# Altium schematic symbol library A_Semi.SchLib: 136 symbols (part 1 of 2)
Pins are listed as number, name and electrical type; pins without a type are passive.

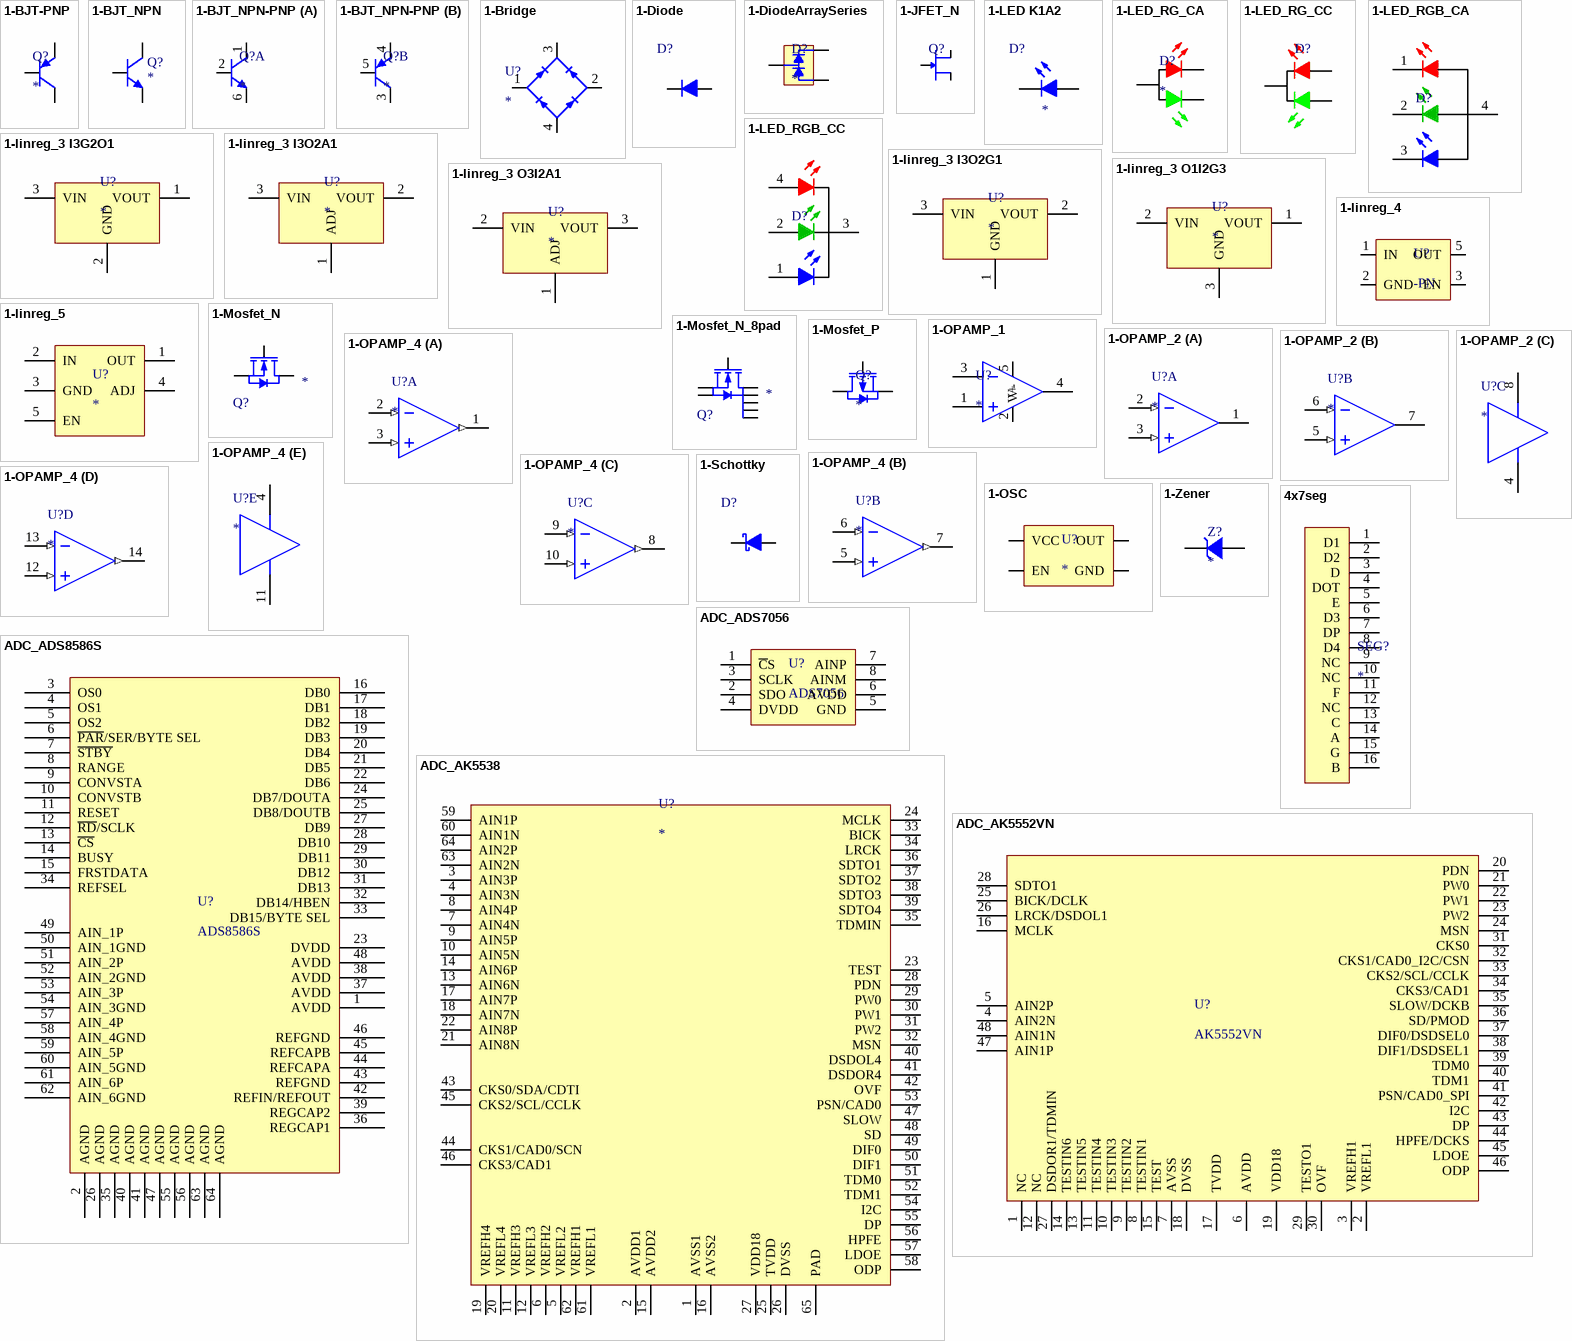
[diagram p0: symbols 1-BJT-PNP to ADC_AK5552VN]

## 1-BJT-PNP
designator Q?
footprint SOT23-3
footprint SOT95P245X110-3N (SOT23, 3-Leads, Body 2.90x2.45mm, Pitch 0.95mm, IPC Medium Density)
footprint TO-220AB (TO, Thru-Hole, Vertical, Heatsink Mounted; 3 In-Line Leads; Pitch 2.54 mm); pin to pad 2>3 3>2
pins: 1 B, 2 E, 3 C

## 1-BJT_NPN
designator Q?
NPN General Purpose
footprint TO-92A (TO, Flat Index; 3 In-Line, Axial Leads; Body Dia. 4.5mm; Leads 0.51 x 0.48 mm (max))
footprint SOT95P245X110-3N (SOT23, 3-Leads, Body 2.90x2.45mm, Pitch 0.95mm, IPC Medium Density)
footprint SOT23-3
pins: 1 B, 2 E, 3 C

## 1-BJT_NPN-PNP
designator Q?
footprint SOT23-6 (SOT23, 6-Leads, Body 2.90x2.80mm, Pitch 0.95mm, IPC Medium Density)
part A pins: 1 C, 2 B, 6 E
part B pins: 3 C, 4 E, 5 B

## 1-Bridge
designator U?
footprint SMC_Diode_Solutions_0_MFG
pins: 1 -, 2 +, 3 1 ~, 4 2 ~

## 1-Diode
designator D?
Generic Diode; Label: *
footprint SMini2-F5-B (Diode) (Panasonic Schottky Diode)
footprint SOD80 (MiniMELF)
footprint DO204
footprint ONSC-POWERMITE-2-457-04_D_V (POWERMITE, 2-Leads, Body 1.965x1.9mm)
footprint FP-SOD123-IPC_A
footprint FP-SOD123-IPC_B
footprint FP-SOD123-IPC_C
footprint FP-SOD123-MFG
footprint SMA_L-K1A2 (Molded Diode, 2-Leads, Body 4.30x2.60mm, IPC High Density)
footprint SMC_L-K1A2 (Molded Diode, 2-Leads, Body 6.85x5.90mm, IPC High Density)
footprint SMA-K1A2 (Molded Diode, 2-Leads, Body 4.30x2.60mm, IPC Medium Density)
footprint SMB-K1A2 (Molded Diode, 2-Leads, Body 4.35x3.62mm, IPC Medium Density)
footprint SMB_L-K1A2 (Molded Diode, 2-Leads, Body 4.35x3.62mm, IPC High Density)
footprint SMC-K1A2 (Molded Diode, 2-Leads, Body 6.85x5.90mm, IPC Medium Density)
footprint FP-SOD-323-MFG
pins: 1 K, 2 A

## 1-DiodeArraySeries
designator D?
footprint SOT23-3
pins: 1 A, 2 C, 3 CA

## 1-JFET_N
designator Q?
footprint SOT95P245X110-3N (SOT23, 3-Leads, Body 2.90x2.45mm, Pitch 0.95mm, IPC Medium Density)
footprint SOT23-3
pins: 1 D, 2 S, 3 G

## 1-LED K1A2
designator D?
Label: *
footprint LTL1CHTBK5
footprint LED-0603-K1A2 (SMD LED, 2-Leads, Body 1.6x0.8mm)
footprint LED-0603-K1A2 - ALT (SMD LED, 2-Leads, Body 1.6x0.8mm)
footprint LED-0805-K1A2 (SMD LED, 2-Leads, Body 2.0x1.25mm)
footprint LED-0805-K1A2 - ALT (SMD LED, 2-Leads, Body 2.0x1.25mm)
footprint LED-T1-3/4-K1A2 (Through Hole LED, 2-Leads, Diameter 5mm, Lead Spacing 2.54mm)
footprint LED-T1-K1A2 (Through Hole LED, 2-Leads, Diameter 3mm, Lead Spacing 2.54mm)
pins: 1 K, 2 A

## 1-LED_RG_CA
designator D?
footprint LTST-S326KGJRKT
pins: 1 K, 2 K, 3 A

## 1-LED_RG_CC
designator D?
R,G LED; Label: *
footprint LTL1BEKVJNN (Common Cathode R/G LED)
pins: 1 A, 2 K, 3 A

## 1-LED_RGB_CA
designator D?  (value not drawn)
footprint LED LTST-C19HE1WT
pins: 1 K, 2 K, 3 K, 4 A

## 1-LED_RGB_CC
designator D?  (value not drawn)
footprint LED-RGB-TH
pins: 1 A, 2 A, 3 C, 4 A

## 1-linreg_3 I3G2O1
designator U?
footprint SOT23-3
footprint SOT23_SOT89_TO92_SMD; pin to pad 1>3 3>1
footprint TO-220AB (TO, Thru-Hole, Vertical, Heatsink Mounted; 3 In-Line Leads; Pitch 2.54 mm); pin to pad 1>3 3>1
footprint TO220-H; pin to pad 1>3 3>1
pins: 1 VOUT (power), 2 GND (power), 3 VIN (power)

## 1-linreg_3 I3O2A1
designator U?
footprint SOT23-3
footprint TO-220AB (TO, Thru-Hole, Vertical, Heatsink Mounted; 3 In-Line Leads; Pitch 2.54 mm)
footprint TO220-H
pins: 1 ADJ (power), 2 VOUT (power), 3 VIN (power)

## 1-linreg_3 I3O2G1
designator U?
footprint SOT23-3
footprint TO252_3_DPAK
pins: 1 GND (power), 2 VOUT (power), 3 VIN (power)

## 1-linreg_3 O1I2G3
designator U?
footprint SOT23-3
pins: 1 VOUT (power), 2 VIN (power), 3 GND (power)

## 1-linreg_3 O3I2A1
designator U?
footprint SOT23-3
footprint TO-220AB (TO, Thru-Hole, Vertical, Heatsink Mounted; 3 In-Line Leads; Pitch 2.54 mm)
footprint TO220-H
pins: 1 ADJ (power), 2 VIN (power), 3 VOUT (power)

## 1-linreg_4
designator U?, comment -PN
PN: *
footprint SOT23-5 (SOT23, 5-Leads, Body 2.90x2.80mm, Pitch 0.95mm, IPC Medium Density)
footprint FP-SON5-P-0_50-MFG; pin to pad 1>3 3>1 5>4
pins: 1 IN, 2 GND, 3 EN, 5 OUT

## 1-linreg_5
designator U?
footprint SOIC127P600X175-8N (SOIC, 8-Leads, Body 4.95x3.90mm, Pitch 1.27mm, IPC Medium Density); pin to pad 2>8 3>2+3+6+7
pins: 1 OUT, 2 IN, 3 GND, 4 ADJ, 5 EN

## 1-Mosfet_N
designator Q?
N-Channel Mosfet; Value: *
footprint SOT95P245X110-3N (SOT23, 3-Leads, Body 2.90x2.45mm, Pitch 0.95mm, IPC Medium Density)
footprint SOT23-3
footprint TO-220AB (TO, Thru-Hole, Vertical, Heatsink Mounted; 3 In-Line Leads; Pitch 2.54 mm); pin to pad 2>3 3>2
footprint TRANS_DMN2020UFCL-7
footprint SMDMosfetGeneral; pin to pad 2>3 3>2
pins: 1 G, 2 S, 3 D

## 1-Mosfet_N_8pad
designator Q?
N-Channel Mosfet; Value: *
footprint DFN2020
pins: 1 D, 2 D, 3 D, 4 D, 5 D, 6 G, 7 D, 8 S

## 1-Mosfet_P
designator Q?
P-Channel Enhancement Mosfet
footprint TO252_3_DPAK
footprint SOT23-3; pin to pad 2>3 3>2
footprint SOT23-6 (SOT23, 6-Leads, Body 2.90x2.80mm, Pitch 0.95mm, IPC Medium Density); pin to pad 1>3 2>1+2+5+6 3>4
footprint TO-220AB (TO, Thru-Hole, Vertical, Heatsink Mounted; 3 In-Line Leads; Pitch 2.54 mm)
pins: 1 G, 2 D, 3 S

## 1-OPAMP_1
designator U?
footprint SOT23-5 (SOT23, 5-Leads, Body 2.90x2.80mm, Pitch 0.95mm, IPC Medium Density)
pins: 1 IN+, 2 V-, 3 IN-, 4 OUT, 5 V+

## 1-OPAMP_2
designator U?
Value: *
footprint SOIC127P600X175-8N (SOIC, 8-Leads, Body 4.95x3.90mm, Pitch 1.27mm, IPC Medium Density)
footprint SOP65P640X120-8N (TSOP, 8-Leads, Body 3.00x4.40mm, Pitch 0.65mm, IPC Medium Density)
footprint MSOP8-TSSOP8-VSSOP8-SSOP8
part A pins: 1 OUT1, 2 IN1- (in), 3 IN1+ (in)
part B pins: 5 IN2+ (in), 6 IN2- (in), 7 OUT2
part C pins: 4 VCC-, 8 VCC+

## 1-OPAMP_4
designator U?
Value: *
footprint SOIC127P600X175-14N (SOIC, 14-Leads, Body 8.63x3.90mm, Pitch 1.27mm, IPC Medium Density)
footprint SOP65P640X120-14N (TSOP, 14-Leads, Body 5.00x4.40mm, Pitch 0.65mm, IPC Medium Density)
part A pins: 1 OUT1 (out), 2 IN1- (in), 3 IN1+ (in)
part B pins: 5 IN2+ (in), 6 IN2- (in), 7 OUT2 (out)
part C pins: 8 OUT3 (out), 9 IN3- (in), 10 IN3+ (in)
part D pins: 12 IN4+ (in), 13 IN4- (in), 14 OUT4 (out)
part E pins: 4 VCC+ (power), 11 VCC- (power)

## 1-OSC
designator U?
footprint OSC
footprint 2520osc
pins: 1 EN, 2 GND, 3 OUT, 4 VCC

## 1-Schottky
designator D?
Generic Diode; Label: *
footprint SMini2-F5-B (Diode) (Panasonic Schottky Diode)
footprint SMA_L-K1A2 (Molded Diode, 2-Leads, Body 4.30x2.60mm, IPC High Density)
pins: 1 K, 2 A

## 1-Zener
designator Z?
footprint FP-SOD-323-IPC_A
footprint FP-SOD-323-IPC_B
footprint FP-SOD-323-IPC_C
footprint SOT23-3
footprint FP-SOD123-IPC_C
footprint FP-SOD123-IPC_B
footprint FP-SOD123-IPC_A
footprint FP-SOD123-MFG
footprint SMC-K1A2 (Molded Diode, 2-Leads, Body 6.85x5.90mm, IPC Medium Density)
footprint FP-SOD-323-MFG
pins: 1 C, 2 A

## 4x7seg
designator SEG?
footprint LTC-4627JR
pins: 1 D1, 2 D2, 3 D, 4 DOT, 5 E, 6 D3, 7 DP, 8 D4, 9 NC, 10 NC, 11 F, 12 NC, 13 C, 14 A, 15 G, 16 B

## ADC_ADS7056
designator U?, comment ADS7056
pins: 1 ~{C}S, 2 SDO, 3 SCLK, 4 DVDD, 5 GND, 6 AVDD, 7 AINP, 8 AINM

## ADC_ADS8586S
designator U?, comment ADS8586S
footprint 64QFP
pins: 1 AVDD, 2 AGND, 3 OS0, 4 OS1, 5 OS2, 6 ~{PAR}/SER/BYTE SEL, 7 ~{STBY}, 8 RANGE, 9 CONVSTA, 10 CONVSTB, 11 RESET, 12 ~{RD}/SCLK, 13 ~{CS}, 14 BUSY, 15 FRSTDATA, 16 DB0, 17 DB1, 18 DB2, 19 DB3, 20 DB4, 21 DB5, 22 DB6, 23 DVDD, 24 DB7/DOUTA, 25 DB8/DOUTB, 26 AGND, 27 DB9, 28 DB10, 29 DB11, 30 DB12, 31 DB13, 32 DB14/HBEN, 33 DB15/BYTE SEL, 34 REFSEL, 35 AGND, 36 REGCAP1, 37 AVDD, 38 AVDD, 39 REGCAP2, 40 AGND, 41 AGND, 42 REFIN/REFOUT, 43 REFGND, 44 REFCAPA, 45 REFCAPB, 46 REFGND, 47 AGND, 48 AVDD, 49 AIN_1P, 50 AIN_1GND, 51 AIN_2P, 52 AIN_2GND, 53 AIN_3P, 54 AIN_3GND, 55 AGND, 56 AGND, 57 AIN_4P, 58 AIN_4GND, 59 AIN_5P, 60 AIN_5GND, 61 AIN_6P, 62 AIN_6GND, 63 AGND, 64 AGND

## ADC_AK5538
designator U?
footprint QFN50P900X900X90_HS-65N (QFN, 64-Leads, Body 9.00x9.00mm, Pitch 0.50mm, Thermal Pad 5.40x5.40mm, IPC Medium Density)
pins: 1 AVSS1, 2 AVDD1, 3 AIN3P, 4 AIN3N, 5 VREFL2, 6 VREFH2, 7 AIN4N, 8 AIN4P, 9 AIN5P, 10 AIN5N, 11 VREFH3, 12 VREFL3, 13 AIN6N, 14 AIN6P, 15 AVDD2, 16 AVSS2, 17 AIN7P, 18 AIN7N, 19 VREFH4, 20 VREFL4, 21 AIN8N, 22 AIN8P, 23 TEST, 24 MCLK, 25 TVDD, 26 DVSS, 27 VDD18, 28 PDN, 29 PW0, 30 PW1, 31 PW2, 32 MSN, 33 BICK, 34 LRCK, 35 TDMIN, 36 SDTO1, 37 SDTO2, 38 SDTO3, 39 SDTO4, 40 DSDOL4, 41 DSDOR4, 42 OVF, 43 CKS0/SDA/CDTI, 44 CKS1/CAD0/SCN, 45 CKS2/SCL/CCLK, 46 CKS3/CAD1, 47 SLOW, 48 SD, 49 DIF0, 50 DIF1, 51 TDM0, 52 TDM1, 53 PSN/CAD0, 54 I2C, 55 DP, 56 HPFE, 57 LDOE, 58 ODP, 59 AIN1P, 60 AIN1N, 61 VREFL1, 62 VREFH1, 63 AIN2N, 64 AIN2P, 65 PAD

## ADC_AK5552VN
designator U?, comment AK5552VN
footprint QFN50P700X700X85_HS-49M (QFN, 48-Leads, Body 7.00x7.00mm, Pitch 0.50mm, Thermal Pad 5.10x5.10mm, IPC Low Density)
pins: 1 NC, 2 VREFL1, 3 VREFH1, 4 AIN2N, 5 AIN2P, 6 AVDD, 7 AVSS, 8 TESTIN1, 9 TESTIN2, 10 TESTIN3, 11 TESTIN4, 12 NC, 13 TESTIN5, 14 TESTIN6, 15 TEST, 16 MCLK, 17 TVDD, 18 DVSS, 19 VDD18, 20 PDN, 21 PW0, 22 PW1, 23 PW2, 24 MSN, 25 BICK/DCLK, 26 LRCK/DSDOL1, 27 DSDOR1/TDMIN, 28 SDTO1, 29 TESTO1, 30 OVF, 31 CKS0, 32 CKS1/CAD0_I2C/CSN, 33 CKS2/SCL/CCLK, 34 CKS3/CAD1, 35 SLOW/DCKB, 36 SD/PMOD, 37 DIF0/DSDSEL0, 38 DIF1/DSDSEL1, 39 TDM0, 40 TDM1, 41 PSN/CAD0_SPI, 42 I2C, 43 DP, 44 HPFE/DCKS, 45 LDOE, 46 ODP, 47 AIN1P, 48 AIN1N

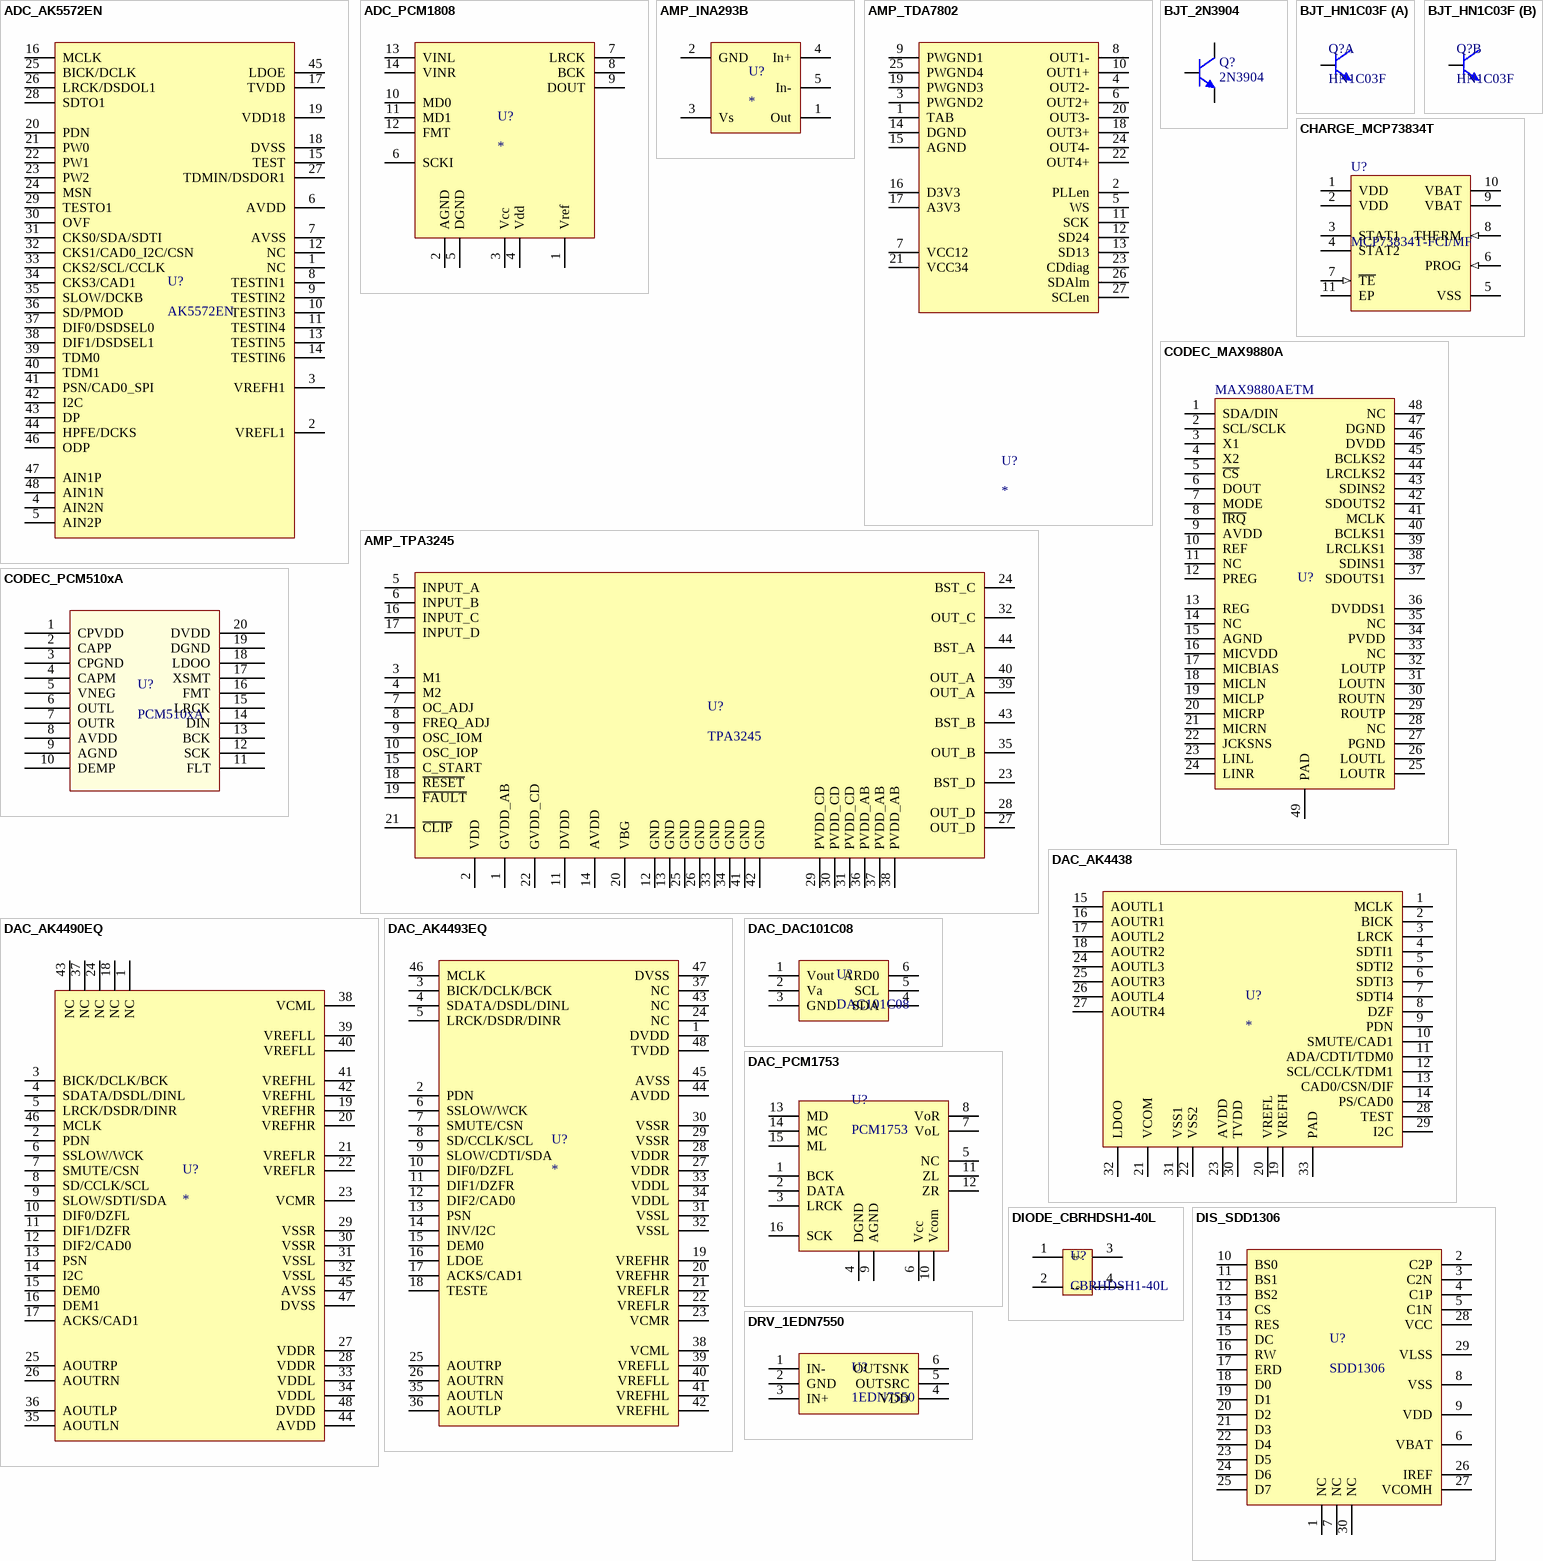
[diagram p1: symbols ADC_AK5572EN to DRV_1EDN7550]

## ADC_AK5572EN
designator U?, comment AK5572EN
footprint QFN50P700X700X85_HS-49M (QFN, 48-Leads, Body 7.00x7.00mm, Pitch 0.50mm, Thermal Pad 5.10x5.10mm, IPC Low Density)
pins: 1 NC, 2 VREFL1, 3 VREFH1, 4 AIN2N, 5 AIN2P, 6 AVDD, 7 AVSS, 8 TESTIN1, 9 TESTIN2, 10 TESTIN3, 11 TESTIN4, 12 NC, 13 TESTIN5, 14 TESTIN6, 15 TEST, 16 MCLK, 17 TVDD, 18 DVSS, 19 VDD18, 20 PDN, 21 PW0, 22 PW1, 23 PW2, 24 MSN, 25 BICK/DCLK, 26 LRCK/DSDOL1, 27 TDMIN/DSDOR1, 28 SDTO1, 29 TESTO1, 30 OVF, 31 CKS0/SDA/SDTI, 32 CKS1/CAD0_I2C/CSN, 33 CKS2/SCL/CCLK, 34 CKS3/CAD1, 35 SLOW/DCKB, 36 SD/PMOD, 37 DIF0/DSDSEL0, 38 DIF1/DSDSEL1, 39 TDM0, 40 TDM1, 41 PSN/CAD0_SPI, 42 I2C, 43 DP, 44 HPFE/DCKS, 45 LDOE, 46 ODP, 47 AIN1P, 48 AIN1N

## ADC_PCM1808
designator U?
footprint SOP65P640X120-14N (TSOP, 14-Leads, Body 5.00x4.40mm, Pitch 0.65mm, IPC Medium Density)
pins: 1 Vref, 2 AGND, 3 Vcc, 4 Vdd, 5 DGND, 6 SCKI, 7 LRCK, 8 BCK, 9 DOUT, 10 MD0, 11 MD1, 12 FMT, 13 VINL, 14 VINR

## AMP_INA293B
designator U?
footprint SOT23-5 (SOT23, 5-Leads, Body 2.90x2.80mm, Pitch 0.95mm, IPC Medium Density)
pins: 1 Out, 2 GND, 3 Vs, 4 In+, 5 In-

## AMP_TDA7802
designator U?
footprint FLEXIWATT-27 (ST Flexiwatt,Vertical, 27-Pin, Formed Leads)
pins: 1 TAB, 2 PLLen, 3 PWGND2, 4 OUT2-, 5 WS, 6 OUT2+, 7 VCC12, 8 OUT1-, 9 PWGND1, 10 OUT1+, 11 SCK, 12 SD24, 13 SD13, 14 DGND, 15 AGND, 16 D3V3, 17 A3V3, 18 OUT3+, 19 PWGND3, 20 OUT3-, 21 VCC34, 22 OUT4+, 23 CDdiag, 24 OUT4-, 25 PWGND4, 26 SDAlm, 27 SCLen

## AMP_TPA3245
designator U?, comment TPA3245
footprint TiPP_44TSSOP
pins: 1 GVDD_AB, 2 VDD, 3 M1, 4 M2, 5 INPUT_A, 6 INPUT_B, 7 OC_ADJ, 8 FREQ_ADJ, 9 OSC_IOM, 10 OSC_IOP, 11 DVDD, 12 GND, 13 GND, 14 AVDD, 15 C_START, 16 INPUT_C, 17 INPUT_D, 18 ~{RESET}, 19 ~{FAULT}, 20 VBG, 21 ~{CLIP}, 22 GVDD_CD, 23 BST_D, 24 BST_C, 25 GND, 26 GND, 27 OUT_D, 28 OUT_D, 29 PVDD_CD, 30 PVDD_CD, 31 PVDD_CD, 32 OUT_C, 33 GND, 34 GND, 35 OUT_B, 36 PVDD_AB, 37 PVDD_AB, 38 PVDD_AB, 39 OUT_A, 40 OUT_A, 41 GND, 42 GND, 43 BST_B, 44 BST_A

## BJT_2N3904
designator Q?, comment 2N3904
NPN General Purpose Amplifier; Published: 8-Jun-2000; LatestRevisionDate: 15-Jan-2003; LatestRevisionNote: PCB Footprint 'BCY-W3/D4.7' replaced; DatasheetVersion: 1997; PackageVersion: Sep-1998; PackageReference: TO-92A; Publisher: Altium Limited; PackageDescription: TO, Flat Index; 3 In-Line, Axial Leads; Body Dia. 4.5mm; Leads 0.51 x 0.48 mm (max); ComponentLink1Description: Manufacturer Link; ComponentLink1URL: http://www.fairchildsemi.com/; ComponentLink2Description: Datasheet; ComponentLink2URL: http://www.fairchildsemi.com/ds/2N%2F2N3904.pdf
footprint TO-92A (TO, Flat Index; 3 In-Line, Axial Leads; Body Dia. 4.5mm; Leads 0.51 x 0.48 mm (max))
simulation model 2N3904 (NPN)
signal-integrity model 2N3904
footprint SOT95P245X110-3N (SOT23, 3-Leads, Body 2.90x2.45mm, Pitch 0.95mm, IPC Medium Density)
pins: 1 B, 2 E, 3 C

## BJT_HN1C03F
designator Q?, comment HN1C03F
Duel npn bjt muting transistor
footprint SOT-363-6 (SC70-60)
footprint SOT23-6 (SOT23, 6-Leads, Body 2.90x2.80mm, Pitch 0.95mm, IPC Medium Density)
part A pins: 1 E, 2 B, 6 C
part B pins: 3 C, 4 E, 5 B

## CHARGE_MCP73834T
designator U?, comment MCP73834T-FCI/MF
Stand-Alone Linear Li-Ion/Li-Polymer Charge Management Controller with Timer Enable, 4.2V, 10-Pin DFN, Industrial Temperature, Tape and Reel; PackageVersion: revBB, Aug-2009; DatasheetVersion: revB, May-2009; PackageDescription: 10-Lead Plastic Dual Flat, No Lead Package (MF) - 3x3x0.9mm Body [DFN]; PackageReference: DFN-MF10; PartNumber: MCP73834T-FCI/MF
footprint DFN-MF10
pins: 1 VDD (power), 2 VDD (power), 3 STAT1 (oc), 4 STAT2 (oc), 5 VSS (power), 6 PROG (in), 7 ~{TE} (in), 8 THERM (in), 9 VBAT (power), 10 VBAT (power), 11 EP (power)

## CODEC_MAX9880A
designator U?, comment value MAX9880AETM  (hidden comment: MAX9880A)
Dual I2S Stereo Audio Codec
footprint QFN40P600X600X90_HS-49N (QFN, 48-Leads, Body 6.00x6.00mm, Pitch 0.40mm, Thermal Pad 4.40x4.40mm, IPC Medium Density)
pins: 1 SDA/DIN, 2 SCL/SCLK, 3 X1, 4 X2, 5 ~{CS}, 6 DOUT, 7 MODE, 8 ~{IRQ}, 9 AVDD, 10 REF, 11 NC, 12 PREG, 13 REG, 14 NC, 15 AGND, 16 MICVDD, 17 MICBIAS, 18 MICLN, 19 MICLP, 20 MICRP, 21 MICRN, 22 JCKSNS, 23 LINL, 24 LINR, 25 LOUTR, 26 LOUTL, 27 PGND, 28 NC, 29 ROUTP, 30 ROUTN, 31 LOUTN, 32 LOUTP, 33 NC, 34 PVDD, 35 NC, 36 DVDDS1, 37 SDOUTS1, 38 SDINS1, 39 LRCLKS1, 40 BCLKS1, 41 MCLK, 42 SDOUTS2, 43 SDINS2, 44 LRCLKS2, 45 BCLKS2, 46 DVDD, 47 DGND, 48 NC, 49 PAD
1 alternate drawing of the same symbol

## CODEC_PCM510xA
designator U?, comment PCM510xA
footprint 20TSSOP
pins: 1 CPVDD, 2 CAPP, 3 CPGND, 4 CAPM, 5 VNEG, 6 OUTL, 7 OUTR, 8 AVDD, 9 AGND, 10 DEMP, 11 FLT, 12 SCK, 13 BCK, 14 DIN, 15 LRCK, 16 FMT, 17 XSMT, 18 LDOO, 19 DGND, 20 DVDD

## DAC_AK4438
designator U?
footprint QFN50P500X500X80_HS-33M (QFN, 32-Leads, Body 5.00x5.00mm, Pitch 0.50mm, Thermal Pad 3.50x3.50mm, IPC Low Density)
pins: 1 MCLK, 2 BICK, 3 LRCK, 4 SDTI1, 5 SDTI2, 6 SDTI3, 7 SDTI4, 8 DZF, 9 PDN, 10 SMUTE/CAD1, 11 ADA/CDTI/TDM0, 12 SCL/CCLK/TDM1, 13 CAD0/CSN/DIF, 14 PS/CAD0, 15 AOUTL1, 16 AOUTR1, 17 AOUTL2, 18 AOUTR2, 19 VREFH, 20 VREFL, 21 VCOM, 22 VSS2, 23 AVDD, 24 AOUTL3, 25 AOUTR3, 26 AOUTL4, 27 AOUTR4, 28 TEST, 29 I2C, 30 TVDD, 31 VSS1, 32 LDOO, 33 PAD

## DAC_AK4490EQ
designator U?
footprint QFN50P700X700X85_HS-49M-noTH (QFN, 48-Leads, Body 7.00x7.00mm, Pitch 0.50mm, Thermal Pad 5.10x5.10mm, IPC Low Density)
pins: 1 NC, 2 PDN, 3 BICK/DCLK/BCK, 4 SDATA/DSDL/DINL, 5 LRCK/DSDR/DINR, 6 SSLOW/WCK, 7 SMUTE/CSN, 8 SD/CCLK/SCL, 9 SLOW/SDTI/SDA, 10 DIF0/DZFL, 11 DIF1/DZFR, 12 DIF2/CAD0, 13 PSN, 14 I2C, 15 DEM0, 16 DEM1, 17 ACKS/CAD1, 18 NC, 19 VREFHR, 20 VREFHR, 21 VREFLR, 22 VREFLR, 23 VCMR, 24 NC, 25 AOUTRP, 26 AOUTRN, 27 VDDR, 28 VDDR, 29 VSSR, 30 VSSR, 31 VSSL, 32 VSSL, 33 VDDL, 34 VDDL, 35 AOUTLN, 36 AOUTLP, 37 NC, 38 VCML, 39 VREFLL, 40 VREFLL, 41 VREFHL, 42 VREFHL, 43 NC, 44 AVDD, 45 AVSS, 46 MCLK, 47 DVSS, 48 DVDD

## DAC_AK4493EQ
designator U?
footprint QFP127P600-8N
pins: 1 DVDD, 2 PDN, 3 BICK/DCLK/BCK, 4 SDATA/DSDL/DINL, 5 LRCK/DSDR/DINR, 6 SSLOW/WCK, 7 SMUTE/CSN, 8 SD/CCLK/SCL, 9 SLOW/CDTI/SDA, 10 DIF0/DZFL, 11 DIF1/DZFR, 12 DIF2/CAD0, 13 PSN, 14 INV/I2C, 15 DEM0, 16 LDOE, 17 ACKS/CAD1, 18 TESTE, 19 VREFHR, 20 VREFHR, 21 VREFLR, 22 VREFLR, 23 VCMR, 24 NC, 25 AOUTRP, 26 AOUTRN, 27 VDDR, 28 VDDR, 29 VSSR, 30 VSSR, 31 VSSL, 32 VSSL, 33 VDDL, 34 VDDL, 35 AOUTLN, 36 AOUTLP, 37 NC, 38 VCML, 39 VREFLL, 40 VREFLL, 41 VREFHL, 42 VREFHL, 43 NC, 44 AVDD, 45 AVSS, 46 MCLK, 47 DVSS, 48 TVDD

## DAC_DAC101C08
designator U?, comment DAC101C08
footprint SOT23-6 (SOT23, 6-Leads, Body 2.90x2.80mm, Pitch 0.95mm, IPC Medium Density)
pins: 1 Vout, 2 Va, 3 GND, 4 SDA, 5 SCL, 6 ARD0

## DAC_PCM1753
designator U?, comment PCM1753
footprint SOP64P600X175-16N (SSOP, 16-Leads, Body 4.91x3.90mm, Pitch 0.64mm, IPC Medium Density)
pins: 1 BCK, 2 DATA, 3 LRCK, 4 DGND, 5 NC, 6 Vcc, 7 VoL, 8 VoR, 9 AGND, 10 Vcom, 11 ZL, 12 ZR, 13 MD, 14 MC, 15 ML, 16 SCK

## DIODE_CBRHDSH1-40L
designator U?, comment CBRHDSH1-40L
footprint HDDIP(Rectifier)
pins: 1 +, 2 --, 3 ~, 4 ~

## DIS_SDD1306
designator U?, comment SDD1306
footprint SDD1306
pins: 1 NC, 2 C2P, 3 C2N, 4 C1P, 5 C1N, 6 VBAT, 7 NC, 8 VSS, 9 VDD, 10 BS0, 11 BS1, 12 BS2, 13 CS, 14 RES, 15 DC, 16 RW, 17 ERD, 18 D0, 19 D1, 20 D2, 21 D3, 22 D4, 23 D5, 24 D6, 25 D7, 26 IREF, 27 VCOMH, 28 VCC, 29 VLSS, 30 NC

## DRV_1EDN7550
designator U?, comment 1EDN7550
footprint SOT23-6 (SOT23, 6-Leads, Body 2.90x2.80mm, Pitch 0.95mm, IPC Medium Density)
pins: 1 IN-, 2 GND, 3 IN+, 4 VDD, 5 OUTSRC, 6 OUTSNK

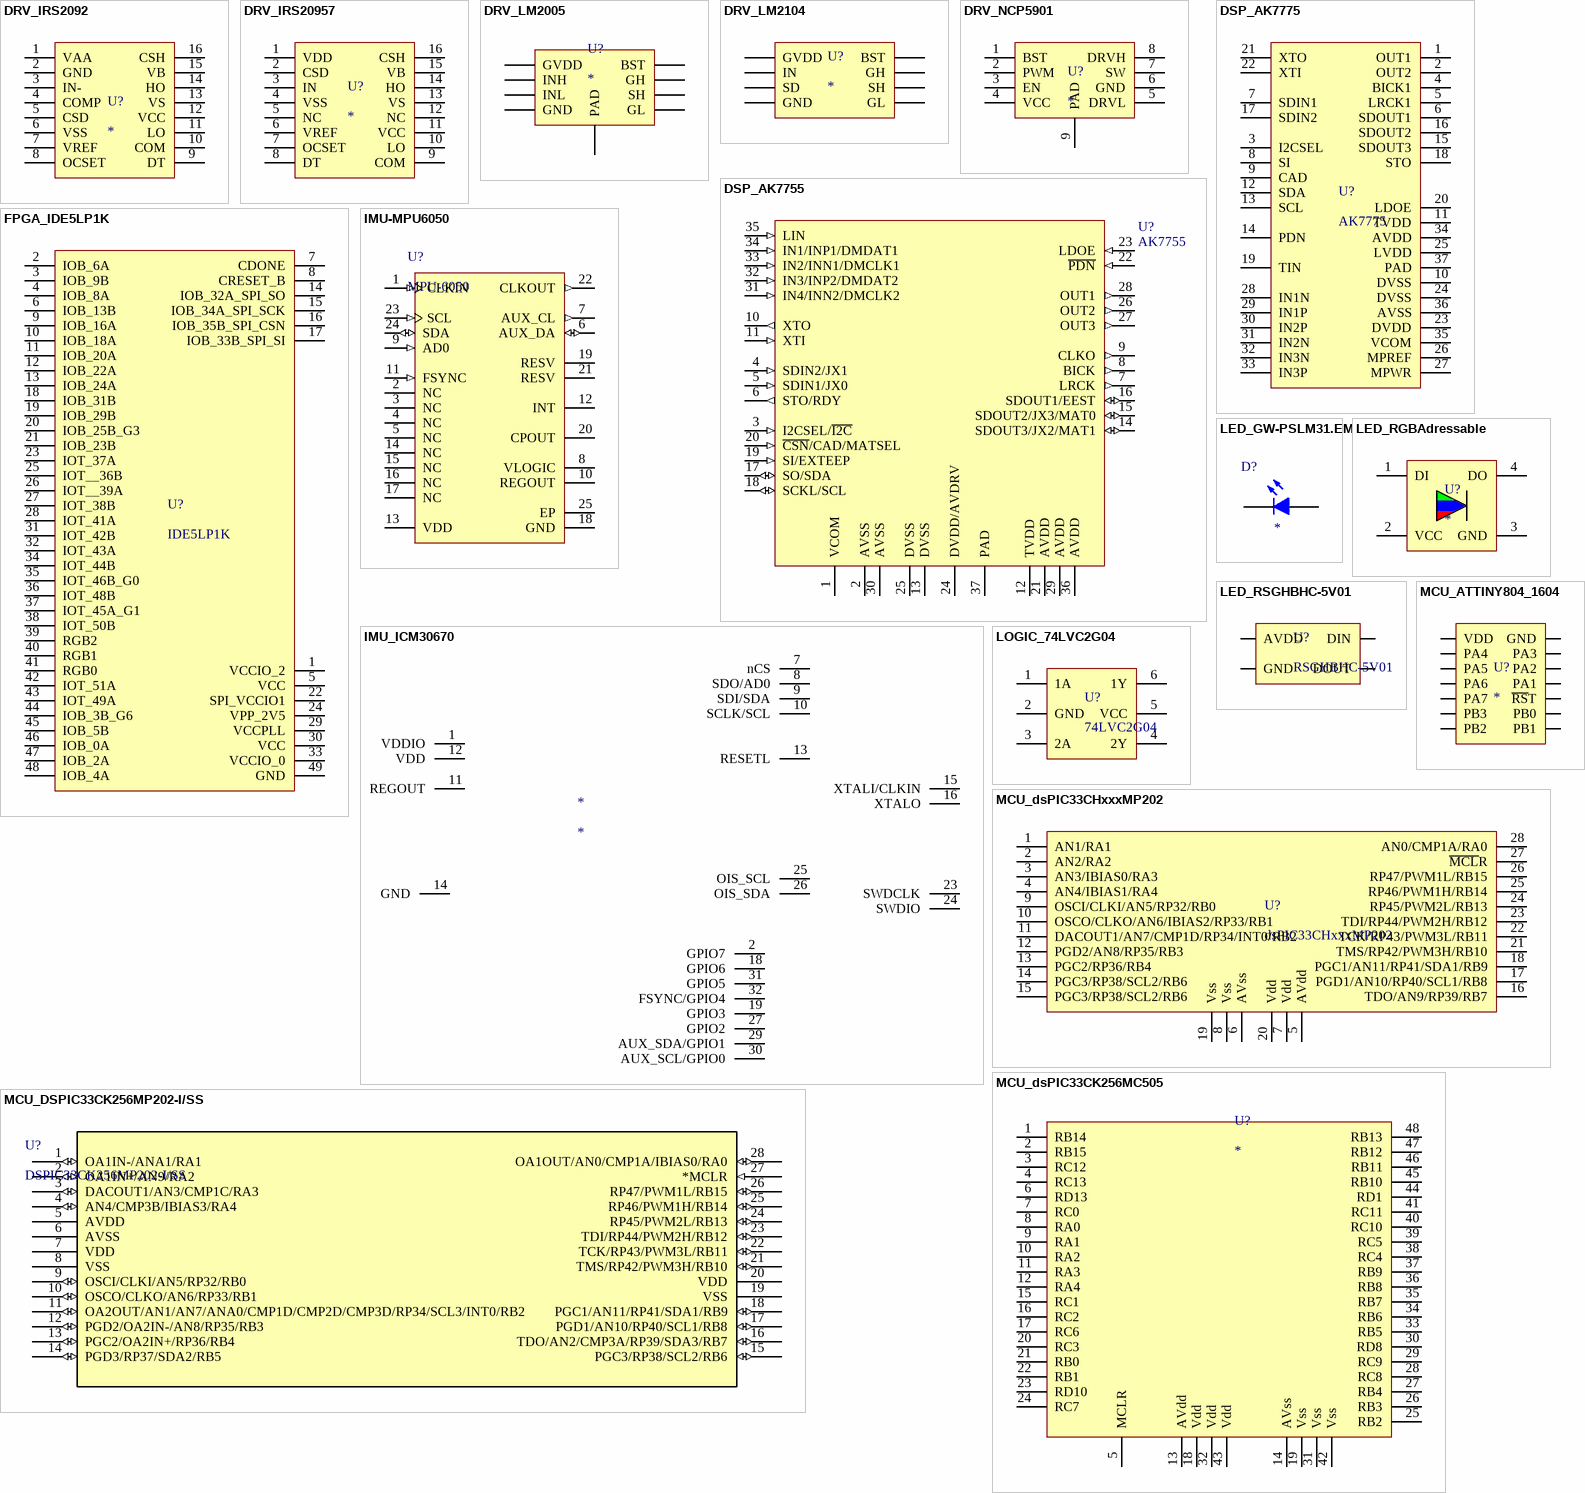
[diagram p2: symbols DRV_IRS2092 to MCU_DSPIC33CK256MP202-I/SS]

## DRV_IRS2092
designator U?
footprint SOIC127P600X175-16N (SOIC, 16-Leads, Body 9.90x3.90mm, Pitch 1.27mm, IPC Medium Density)
pins: 1 VAA, 2 GND, 3 IN-, 4 COMP, 5 CSD, 6 VSS, 7 VREF, 8 OCSET, 9 DT, 10 COM, 11 LO, 12 VCC, 13 VS, 14 HO, 15 VB, 16 CSH

## DRV_IRS20957
designator U?
footprint SOIC127P600X175-16N (SOIC, 16-Leads, Body 9.90x3.90mm, Pitch 1.27mm, IPC Medium Density)
pins: 1 VDD, 2 CSD, 3 IN, 4 VSS, 5 NC, 6 VREF, 7 OCSET, 8 DT, 9 COM, 10 LO, 11 VCC, 12 NC, 13 VS, 14 HO, 15 VB, 16 CSH

## DRV_LM2005
designator U?
footprint WSON-8
pins: 1 GVDD, 2 INH, 3 INL, 4 GND, 5 GL, 6 SH, 7 GH, 8 BST, 9 PAD

## DRV_LM2104
designator U?
footprint SOIC127P600X175-8N (SOIC, 8-Leads, Body 4.95x3.90mm, Pitch 1.27mm, IPC Medium Density)
pins: 1 GVDD, 2 IN, 3 SD, 4 GND, 5 GL, 6 SH, 7 GH, 8 BST

## DRV_NCP5901
designator U?
footprint SOIC8_DFN8
pins: 1 BST, 2 PWM, 3 EN, 4 VCC, 5 DRVL, 6 GND, 7 SW, 8 DRVH, 9 PAD

## DSP_AK7755
designator U?, comment AK7755
footprint QFN50P588X588X100_HS-37N (QFN, 36-Leads, Body 5.88x5.88mm, Pitch 0.50mm, Thermal Pad 4.10x4.10mm, IPC Medium Density)
pins: 1 VCOM, 2 AVSS (power), 3 I2CSEL/~{I2C} (in), 4 SDIN2/JX1 (in), 5 SDIN1/JX0 (in), 6 STO/RDY (out), 7 LRCK (out), 8 BICK (out), 9 CLKO (out), 10 XTO (out), 11 XTI (in), 12 TVDD (power), 13 DVSS (power), 14 SDOUT3/JX2/MAT1 (io), 15 SDOUT2/JX3/MAT0 (io), 16 SDOUT1/EEST (io), 17 SO/SDA (io), 18 SCKL/SCL (io), 19 SI/EXTEEP (in), 20 ~{CSN}/CAD/MATSEL (in), 21 AVDD (power), 22 ~{PDN} (in), 23 LDOE (in), 24 DVDD/AVDRV, 25 DVSS (power), 26 OUT2 (out), 27 OUT3 (out), 28 OUT1 (out), 29 AVDD (power), 30 AVSS (power), 31 IN4/INN2/DMCLK2 (in), 32 IN3/INP2/DMDAT2 (in), 33 IN2/INN1/DMCLK1 (in), 34 IN1/INP1/DMDAT1 (in), 35 LIN (in), 36 AVDD (power), 37 PAD (power)

## DSP_AK7775
designator U?, comment AK7775
footprint QFN40P500X500X80_HS-37N (QFN, 36-Leads, Body 5.00x5.00mm, Pitch 0.40mm, Thermal Pad 3.60x3.60mm, IPC Medium Density)
footprint QFN40P500X500X80_HS-37M (QFN, 36-Leads, Body 5.00x5.00mm, Pitch 0.40mm, Thermal Pad 3.60x3.60mm, IPC Low Density)
pins: 1 OUT1, 2 OUT2, 3 I2CSEL, 4 BICK1, 5 LRCK1, 6 SDOUT1, 7 SDIN1, 8 SI, 9 CAD, 10 DVSS, 11 TVDD, 12 SDA, 13 SCL, 14 PDN, 15 SDOUT3, 16 SDOUT2, 17 SDIN2, 18 STO, 19 TIN, 20 LDOE, 21 XTO, 22 XTI, 23 DVDD, 24 DVSS, 25 LVDD, 26 MPREF, 27 MPWR, 28 IN1N, 29 IN1P, 30 IN2P, 31 IN2N, 32 IN3N, 33 IN3P, 34 AVDD, 35 VCOM, 36 AVSS, 37 PAD

## FPGA_IDE5LP1K
designator U?, comment IDE5LP1K
footprint QFN50P700X700X85_HS-49M (QFN, 48-Leads, Body 7.00x7.00mm, Pitch 0.50mm, Thermal Pad 5.10x5.10mm, IPC Low Density)
footprint QFN50P700X700X85_HS-49M-noTH (QFN, 48-Leads, Body 7.00x7.00mm, Pitch 0.50mm, Thermal Pad 5.10x5.10mm, IPC Low Density)
footprint QFN50P700X700X85_HS-49M-pad (QFN, 48-Leads, Body 7.00x7.00mm, Pitch 0.50mm, Thermal Pad 5.10x5.10mm, IPC Low Density)
pins: 1 VCCIO_2, 2 IOB_6A, 3 IOB_9B, 4 IOB_8A, 5 VCC, 6 IOB_13B, 7 CDONE, 8 CRESET_B, 9 IOB_16A, 10 IOB_18A, 11 IOB_20A, 12 IOB_22A, 13 IOB_24A, 14 IOB_32A_SPI_SO, 15 IOB_34A_SPI_SCK, 16 IOB_35B_SPI_CSN, 17 IOB_33B_SPI_SI, 18 IOB_31B, 19 IOB_29B, 20 IOB_25B_G3, 21 IOB_23B, 22 SPI_VCCIO1, 23 IOT_37A, 24 VPP_2V5, 25 IOT__36B, 26 IOT__39A, 27 IOT_38B, 28 IOT_41A, 29 VCCPLL, 30 VCC, 31 IOT_42B, 32 IOT_43A, 33 VCCIO_0, 34 IOT_44B, 35 IOT_46B_G0, 36 IOT_48B, 37 IOT_45A_G1, 38 IOT_50B, 39 RGB2, 40 RGB1, 41 RGB0, 42 IOT_51A, 43 IOT_49A, 44 IOB_3B_G6, 45 IOB_5B, 46 IOB_0A, 47 IOB_2A, 48 IOB_4A, 49 GND

## IMU-MPU6050
designator U?, comment MPU-6050
3-Axis Gyroscope, Accelerometer and a Digital Motion Processor(TM) (DMP), 2.375 to 3.46 V, -40 to 85 degC, 24-Pin QFN, RoHS, Tape and Reel; Manufacturer: InvenSense; Featured Product: MPU-60506-Axis,IntegratedI²CSolution; Other Names: 1428-1007-2 / MPU6050; Sensor Type: MotionTracking; Online Catalog: MPU-6000™Series; Unit PriceUSD: Digital; Datasheet Version: Rev. 3.3, 05/2012; Category: Sensors,Transducers; Datasheet URL: http://datasheet.octopart.com/MPU-6050-InvenSense-datasheet-14421344.pdf; Family: Multifunction; Standard Package: 5,000; Manufacturer URL: http://www.invensense.com/; Output Type: Digital; Dynamic Catalog: MPU-6000™Series
footprint IS-QFN-24_V (QFN, 24-Leads, Body 4x4mm, Pitch 0.5mm, Thermal Pad 2.7x2.6mm)
pins: 1 CLKIN (in) "Optional external reference clock input. Connect to GND if unused.", 2 NC "Not internally connected. May be used for PCB trace routing", 3 NC "Not internally connected. May be used for PCB trace routing", 4 NC "Not internally connected. May be used for PCB trace routing", 5 NC "Not internally connected. May be used for PCB trace routing", 6 AUX_DA (io) "I2C master serial data, for connecting to external sensors", 7 AUX_CL (out) "I2C Master serial clock, for connecting to external sensors", 8 VLOGIC (power) "Digital I/O supply voltage", 9 AD0 (in) "I2C Slave Address LSB (AD0)", 10 REGOUT "Regulator filter capacitor connection", 11 FSYNC (in) "Frame synchronization digital input. Connect to GND if unused.", 12 INT (oc) "Interrupt digital output (totem pole or open-drain)", 13 VDD (power) "Power supply voltage and Digital I/O supply voltage", 14 NC "Not internally connected. May be used for PCB trace routing", 15 NC "Not internally connected. May be used for PCB trace routing", 16 NC "Not internally connected. May be used for PCB trace routing", 17 NC "Not internally connected. May be used for PCB trace routing", 18 GND (power) "Power supply ground", 19 RESV "Reserved. Do not connect", 20 CPOUT "Charge pump capacitor connection", 21 RESV "Reserved. Do not connect", 22 CLKOUT (out) "System clock output", 23 SCL (in) "System clock output  I2C serial clock (SCL)", 24 SDA (io) "I2C serial data (SDA)", 25 EP (power) "Exposed Pad"

## IMU_ICM30670
designator *
pins: 1 VDDIO, 2 GPIO7, 7 nCS, 8 SDO/AD0, 9 SDI/SDA, 10 SCLK/SCL, 11 REGOUT, 12 VDD, 13 RESETL, 14 GND, 15 XTALI/CLKIN, 16 XTALO, 18 GPIO6, 19 GPIO3, 23 SWDCLK, 24 SWDIO, 25 OIS_SCL, 26 OIS_SDA, 27 GPIO2, 29 AUX_SDA/GPIO1, 30 AUX_SCL/GPIO0, 31 GPIO5, 32 FSYNC/GPIO4

## LED_GW-PSLM31.EM
designator D?, comment GW-PSLM31.EM  (value not drawn)
DURIS s 5 White OSRAM; Label: *
footprint LED 1212 GW PSLM32.EM (LED DURIS S5 COOL WHT 6500K SMD)
pins: 1 K, 2 A

## LED_RGBAdressable
designator U?
footprint 4p5mmled
pins: 1 DI, 2 VCC, 3 GND, 4 DO

## LED_RSGHBHC-5V01
designator U?, comment RSGHBHC-5V01
footprint LED RSGHBHC-5V01
pins: 1 DOUT, 2 AVDD, 3 DIN, 4 GND

## LOGIC_74LVC2G04
designator U?, comment 74LVC2G04
footprint SOT23-6 (SOT23, 6-Leads, Body 2.90x2.80mm, Pitch 0.95mm, IPC Medium Density)
pins: 1 1A, 2 GND, 3 2A, 4 2Y, 5 VCC, 6 1Y

## MCU_ATTINY804_1604
designator U?
footprint SOIC14
pins: 1 VDD, 2 PA4, 3 PA5, 4 PA6, 5 PA7, 6 PB3, 7 PB2, 8 PB1, 9 PB0, 10 ~{RS}T, 11 PA1, 12 PA2, 13 PA3, 14 GND

## MCU_dsPIC33CHxxxMP202
designator U?, comment dsPIC33CHxxxMP202
pins: 1 AN1/RA1, 2 AN2/RA2, 3 AN3/IBIAS0/RA3, 4 AN4/IBIAS1/RA4, 5 AVdd, 6 AVss, 7 Vdd, 8 Vss, 9 OSCI/CLKI/AN5/RP32/RB0, 10 OSCO/CLKO/AN6/IBIAS2/RP33/RB1, 11 DACOUT1/AN7/CMP1D/RP34/INT0/RB2, 12 PGD2/AN8/RP35/RB3, 13 PGC2/RP36/RB4, 14 PGC3/RP38/SCL2/RB6, 15 PGC3/RP38/SCL2/RB6, 16 TDO/AN9/RP39/RB7, 17 PGD1/AN10/RP40/SCL1/RB8, 18 PGC1/AN11/RP41/SDA1/RB9, 19 Vss, 20 Vdd, 21 TMS/RP42/PWM3H/RB10, 22 TCK/RP43/PWM3L/RB11, 23 TDI/RP44/PWM2H/RB12, 24 RP45/PWM2L/RB13, 25 RP46/PWM1H/RB14, 26 RP47/PWM1L/RB15, 27 ~{MCL}R, 28 AN0/CMP1A/RA0

## MCU_dsPIC33CK256MC505
designator U?
footprint TSQFP50P900X900X120-48N (TSQFP, 48-Leads, Body 7.00x7.00mm, Pitch 0.50mm, IPC Medium Density)
pins: 1 RB14, 2 RB15, 3 RC12, 4 RC13, 5 MCLR, 6 RD13, 7 RC0, 8 RA0, 9 RA1, 10 RA2, 11 RA3, 12 RA4, 13 AVdd, 14 AVss, 15 RC1, 16 RC2, 17 RC6, 18 Vdd, 19 Vss, 20 RC3, 21 RB0, 22 RB1, 23 RD10, 24 RC7, 25 RB2, 26 RB3, 27 RB4, 28 RC8, 29 RC9, 30 RD8, 31 Vss, 32 Vdd, 33 RB5, 34 RB6, 35 RB7, 36 RB8, 37 RB9, 38 RC4, 39 RC5, 40 RC10, 41 RC11, 42 Vss, 43 Vdd, 44 RD1, 45 RB10, 46 RB11, 47 RB12, 48 RB13

## MCU_DSPIC33CK256MP202-I/SS
designator U?, comment DSPIC33CK256MP202-I/SS
No Description Available; Mfr_Name: Microchip; Copyright: Copyright (C) 2021 Ultra Librarian. All rights reserved.; Manufacturer_Part_Number: DSPIC33CK256MP202-I/SS; Digi-Key_Part_Number_1: DSPIC33CK256MP202-I/SS-ND; RefDes: RefDes; Type: DEV
footprint SSOP28_SS_MCH
pins: 1 OA1IN-/ANA1/RA1 (io), 2 OA1IN+/AN9/RA2 (io), 3 DACOUT1/AN3/CMP1C/RA3 (io), 4 AN4/CMP3B/IBIAS3/RA4 (io), 5 AVDD (power), 6 AVSS, 7 VDD (power), 8 VSS, 9 OSCI/CLKI/AN5/RP32/RB0 (io), 10 OSCO/CLKO/AN6/RP33/RB1 (io), 11 OA2OUT/AN1/AN7/ANA0/CMP1D/CMP2D/CMP3D/RP34/SCL3/INT0/RB2 (io), 12 PGD2/OA2IN-/AN8/RP35/RB3 (io), 13 PGC2/OA2IN+/RP36/RB4 (io), 14 PGD3/RP37/SDA2/RB5 (io), 15 PGC3/RP38/SCL2/RB6 (io), 16 TDO/AN2/CMP3A/RP39/SDA3/RB7 (io), 17 PGD1/AN10/RP40/SCL1/RB8 (io), 18 PGC1/AN11/RP41/SDA1/RB9 (io), 19 VSS, 20 VDD (power), 21 TMS/RP42/PWM3H/RB10 (io), 22 TCK/RP43/PWM3L/RB11 (io), 23 TDI/RP44/PWM2H/RB12 (io), 24 RP45/PWM2L/RB13 (io), 25 RP46/PWM1H/RB14 (io), 26 RP47/PWM1L/RB15 (io), 27 *MCLR (in), 28 OA1OUT/AN0/CMP1A/IBIAS0/RA0 (io)

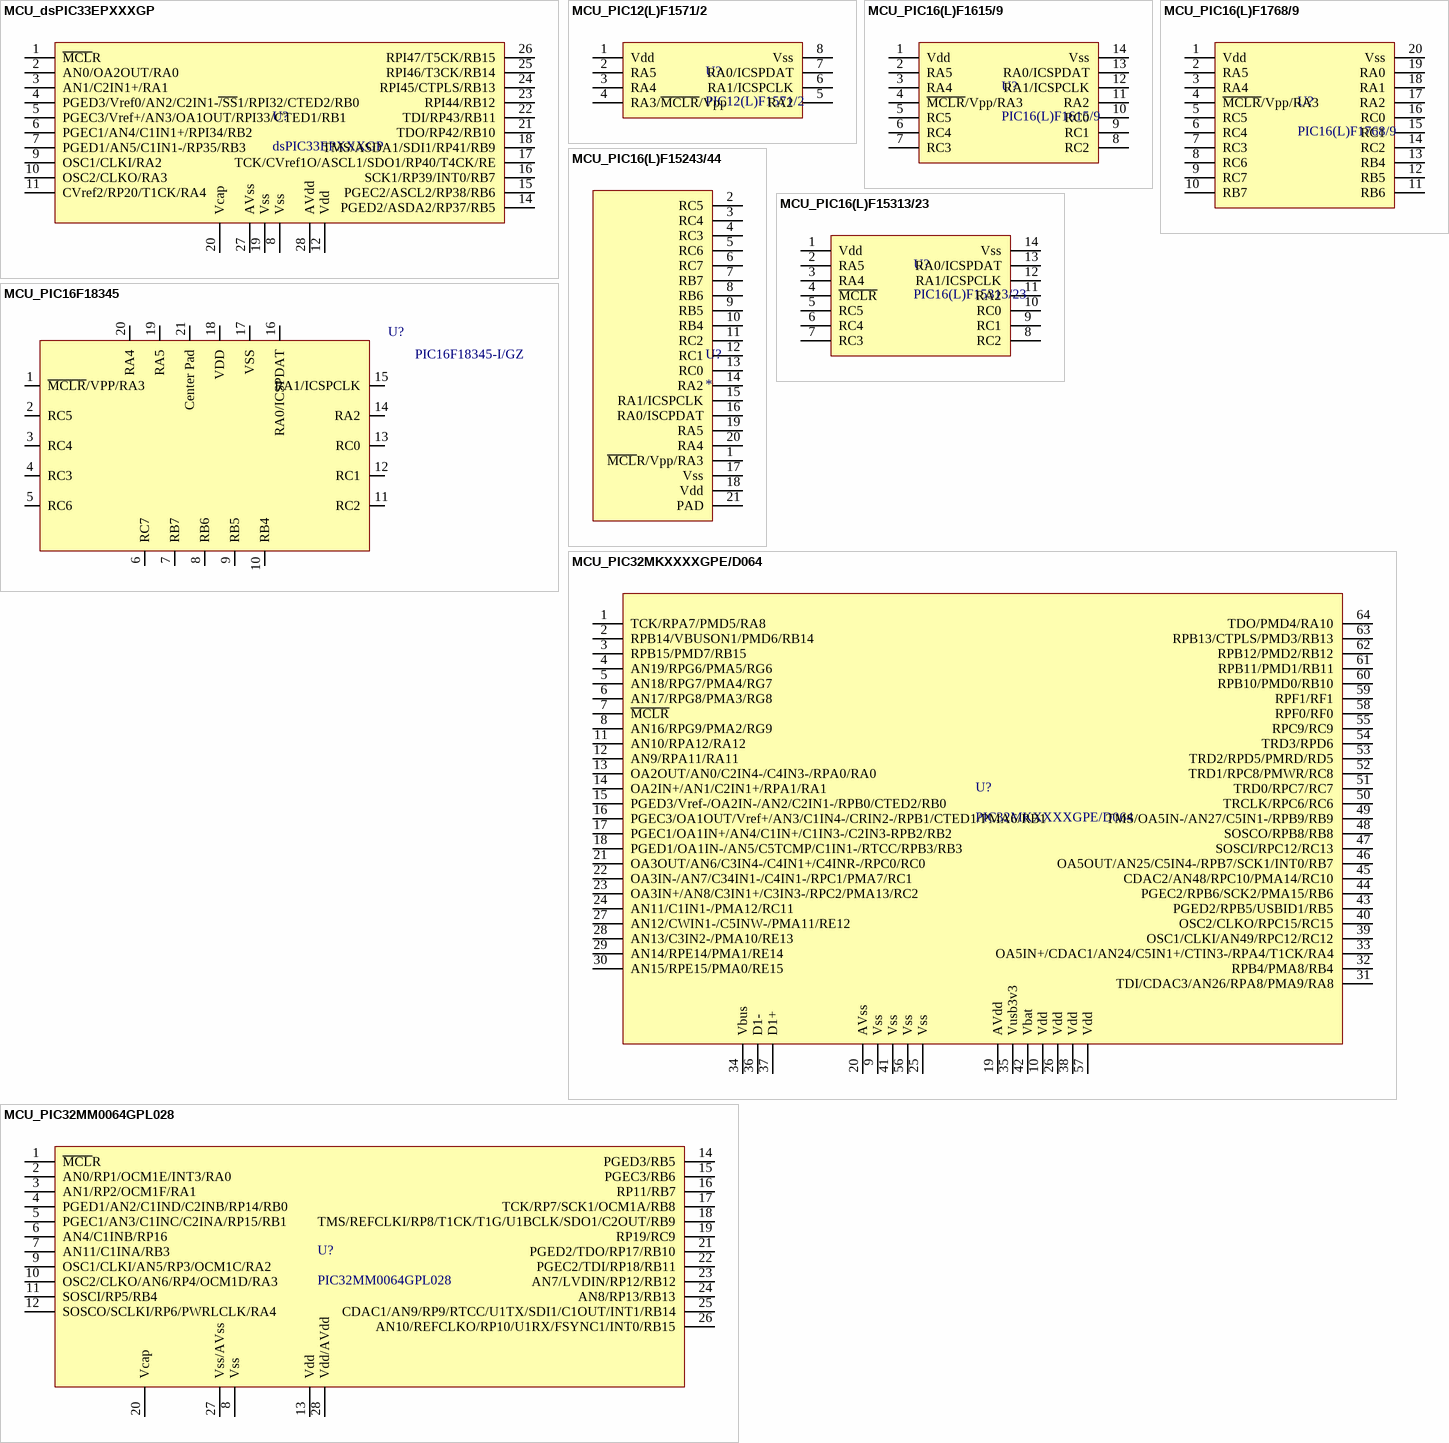
[diagram p3: symbols MCU_dsPIC33EPXXXGP to MCU_PIC32MM0064GPL028]

## MCU_dsPIC33EPXXXGP
designator U?, comment dsPIC33EPXXXGP
pins: 1 ~{MCL}R, 2 AN0/OA2OUT/RA0, 3 AN1/C2IN1+/RA1, 4 PGED3/Vref0/AN2/C2IN1-~{/SS}1/RPI32/CTED2/RB0, 5 PGEC3/Vref+/AN3/OA1OUT/RPI33/CTED1/RB1, 6 PGEC1/AN4/C1IN1+/RPI34/RB2, 7 PGED1/AN5/C1IN1-/RP35/RB3, 8 Vss, 9 OSC1/CLKI/RA2, 10 OSC2/CLKO/RA3, 11 CVref2/RP20/T1CK/RA4, 12 Vdd, 14 PGED2/ASDA2/RP37/RB5, 15 PGEC2/ASCL2/RP38/RB6, 16 SCK1/RP39/INT0/RB7, 17 TCK/CVref1O/ASCL1/SDO1/RP40/T4CK/RE, 18 TMS/ASDA1/SDI1/RP41/RB9, 19 Vss, 20 Vcap, 21 TDO/RP42/RB10, 22 TDI/RP43/RB11, 23 RPI44/RB12, 24 RPI45/CTPLS/RB13, 25 RPI46/T3CK/RB14, 26 RPI47/T5CK/RB15, 27 AVss, 28 AVdd

## MCU_PIC12(L)F1571/2
designator U?, comment PIC12(L)F1571/2
footprint SOIC127P600X175-8N (SOIC, 8-Leads, Body 4.95x3.90mm, Pitch 1.27mm, IPC Medium Density)
pins: 1 Vdd, 2 RA5, 3 RA4, 4 RA3/~{MCLR}/Vpp, 5 RA2, 6 RA1/ICSPCLK, 7 RA0/ICSPDAT, 8 Vss

## MCU_PIC16(L)F1615/9
designator U?, comment PIC16(L)F1615/9
pins: 1 Vdd, 2 RA5, 3 RA4, 4 ~{MCLR}/Vpp/RA3, 5 RC5, 6 RC4, 7 RC3, 8 RC2, 9 RC1, 10 RC0, 11 RA2, 12 RA1/ICSPCLK, 13 RA0/ICSPDAT, 14 Vss

## MCU_PIC16(L)F1768/9
designator U?, comment PIC16(L)F1768/9
footprint SOIC20
footprint 20SSOP
pins: 1 Vdd, 2 RA5, 3 RA4, 4 ~{MCLR}/Vpp/RA3, 5 RC5, 6 RC4, 7 RC3, 8 RC6, 9 RC7, 10 RB7, 11 RB6, 12 RB5, 13 RB4, 14 RC2, 15 RC1, 16 RC0, 17 RA2, 18 RA1, 19 RA0, 20 Vss

## MCU_PIC16(L)F15243/44
designator U?
footprint QFN40P300X300X100_HS-21N (QFN, 20-Leads, Body 3.00x3.00mm, Pitch 0.40mm, Thermal Pad 1.80x1.80mm, IPC Medium Density)
pins: 1 ~{MCL}R/Vpp/RA3, 2 RC5, 3 RC4, 4 RC3, 5 RC6, 6 RC7, 7 RB7, 8 RB6, 9 RB5, 10 RB4, 11 RC2, 12 RC1, 13 RC0, 14 RA2, 15 RA1/ICSPCLK, 16 RA0/ISCPDAT, 17 Vss, 18 Vdd, 19 RA5, 20 RA4, 21 PAD

## MCU_PIC16(L)F15313/23
designator U?, comment PIC16(L)F15313/23
footprint SOIC14
pins: 1 Vdd, 2 RA5, 3 RA4, 4 ~{MCLR}, 5 RC5, 6 RC4, 7 RC3, 8 RC2, 9 RC1, 10 RC0, 11 RA2, 12 RA1/ICSPCLK, 13 RA0/ICSPDAT, 14 Vss

## MCU_PIC16F18345
designator U?, comment PIC16F18345-I/GZ
ComponentLink1Description: DataSheet; ComponentLink1URL: https://ww1.microchip.com/downloads/aemDocuments/documents/MCU08/ProductDocuments/DataSheets/PIC16-L-F18325-18345-Microcontroller-Data-Sheet-DS40001795.pdf; Value: PIC16F18345-I/GZ
footprint QFN20P2.8X2.8X0.5 (8-bit Microcontrollers - MCU 8-BIT MCU 14KB Flash 1KB RAM, 256 EEPROM)
pins: 1 ~{MCLR}/VPP/RA3, 2 RC5, 3 RC4, 4 RC3, 5 RC6, 6 RC7, 7 RB7, 8 RB6, 9 RB5, 10 RB4, 11 RC2, 12 RC1, 13 RC0, 14 RA2, 15 RA1/ICSPCLK, 16 RA0/ICSPDAT, 17 VSS, 18 VDD, 19 RA5, 20 RA4, 21 Center Pad

## MCU_PIC32MKXXXXGPE/D064
designator U?, comment PIC32MKXXXXGPE/D064
footprint TSQFP50P1200X1200X120-64M (TSQFP, 64-Leads, Body 10.00x10.00mm, Pitch 0.50mm, IPC Low Density)
pins: 1 TCK/RPA7/PMD5/RA8, 2 RPB14/VBUSON1/PMD6/RB14, 3 RPB15/PMD7/RB15, 4 AN19/RPG6/PMA5/RG6, 5 AN18/RPG7/PMA4/RG7, 6 AN17/RPG8/PMA3/RG8, 7 ~{MCLR}, 8 AN16/RPG9/PMA2/RG9, 9 Vss, 10 Vdd, 11 AN10/RPA12/RA12, 12 AN9/RPA11/RA11, 13 OA2OUT/AN0/C2IN4-/C4IN3-/RPA0/RA0, 14 OA2IN+/AN1/C2IN1+/RPA1/RA1, 15 PGED3/Vref-/OA2IN-/AN2/C2IN1-/RPB0/CTED2/RB0, 16 PGEC3/OA1OUT/Vref+/AN3/C1IN4-/CRIN2-/RPB1/CTED1/PMA6/RB1, 17 PGEC1/OA1IN+/AN4/C1IN+/C1IN3-/C2IN3-RPB2/RB2, 18 PGED1/OA1IN-/AN5/C5TCMP/C1IN1-/RTCC/RPB3/RB3, 19 AVdd, 20 AVss, 21 OA3OUT/AN6/C3IN4-/C4IN1+/C4INR-/RPC0/RC0, 22 OA3IN-/AN7/C34IN1-/C4IN1-/RPC1/PMA7/RC1, 23 OA3IN+/AN8/C3IN1+/C3IN3-/RPC2/PMA13/RC2, 24 AN11/C1IN1-/PMA12/RC11, 25 Vss, 26 Vdd, 27 AN12/CWIN1-/C5INW-/PMA11/RE12, 28 AN13/C3IN2-/PMA10/RE13, 29 AN14/RPE14/PMA1/RE14, 30 AN15/RPE15/PMA0/RE15, 31 TDI/CDAC3/AN26/RPA8/PMA9/RA8, 32 RPB4/PMA8/RB4, 33 OA5IN+/CDAC1/AN24/C5IN1+/CTIN3-/RPA4/T1CK/RA4, 34 Vbus, 35 Vusb3v3, 36 D1-, 37 D1+, 38 Vdd, 39 OSC1/CLKI/AN49/RPC12/RC12, 40 OSC2/CLKO/RPC15/RC15, 41 Vss, 42 Vbat, 43 PGED2/RPB5/USBID1/RB5, 44 PGEC2/RPB6/SCK2/PMA15/RB6, 45 CDAC2/AN48/RPC10/PMA14/RC10, 46 OA5OUT/AN25/C5IN4-/RPB7/SCK1/INT0/RB7, 47 SOSCI/RPC12/RC13, 48 SOSCO/RPB8/RB8, 49 TMS/OA5IN-/AN27/C5IN1-/RPB9/RB9, 50 TRCLK/RPC6/RC6, 51 TRD0/RPC7/RC7, 52 TRD1/RPC8/PMWR/RC8, 53 TRD2/RPD5/PMRD/RD5, 54 TRD3/RPD6, 55 RPC9/RC9, 56 Vss, 57 Vdd, 58 RPF0/RF0, 59 RPF1/RF1, 60 RPB10/PMD0/RB10, 61 RPB11/PMD1/RB11, 62 RPB12/PMD2/RB12, 63 RPB13/CTPLS/PMD3/RB13, 64 TDO/PMD4/RA10

## MCU_PIC32MM0064GPL028
designator U?, comment PIC32MM0064GPL028
footprint SOIC127P1100X265-28N (SOIC, 28-Leads, Body 17.90x7.40mm, Pitch 1.27mm, IPC Medium Density)
pins: 1 ~{MCL}R, 2 AN0/RP1/OCM1E/INT3/RA0, 3 AN1/RP2/OCM1F/RA1, 4 PGED1/AN2/C1IND/C2INB/RP14/RB0, 5 PGEC1/AN3/C1INC/C2INA/RP15/RB1, 6 AN4/C1INB/RP16, 7 AN11/C1INA/RB3, 8 Vss, 9 OSC1/CLKI/AN5/RP3/OCM1C/RA2, 10 OSC2/CLKO/AN6/RP4/OCM1D/RA3, 11 SOSCI/RP5/RB4, 12 SOSCO/SCLKI/RP6/PWRLCLK/RA4, 13 Vdd, 14 PGED3/RB5, 15 PGEC3/RB6, 16 RP11/RB7, 17 TCK/RP7/SCK1/OCM1A/RB8, 18 TMS/REFCLKI/RP8/T1CK/T1G/U1BCLK/SDO1/C2OUT/RB9, 19 RP19/RC9, 20 Vcap, 21 PGED2/TDO/RP17/RB10, 22 PGEC2/TDI/RP18/RB11, 23 AN7/LVDIN/RP12/RB12, 24 AN8/RP13/RB13, 25 CDAC1/AN9/RP9/RTCC/U1TX/SDI1/C1OUT/INT1/RB14, 26 AN10/REFCLKO/RP10/U1RX/FSYNC1/INT0/RB15, 27 Vss/AVss, 28 Vdd/AVdd

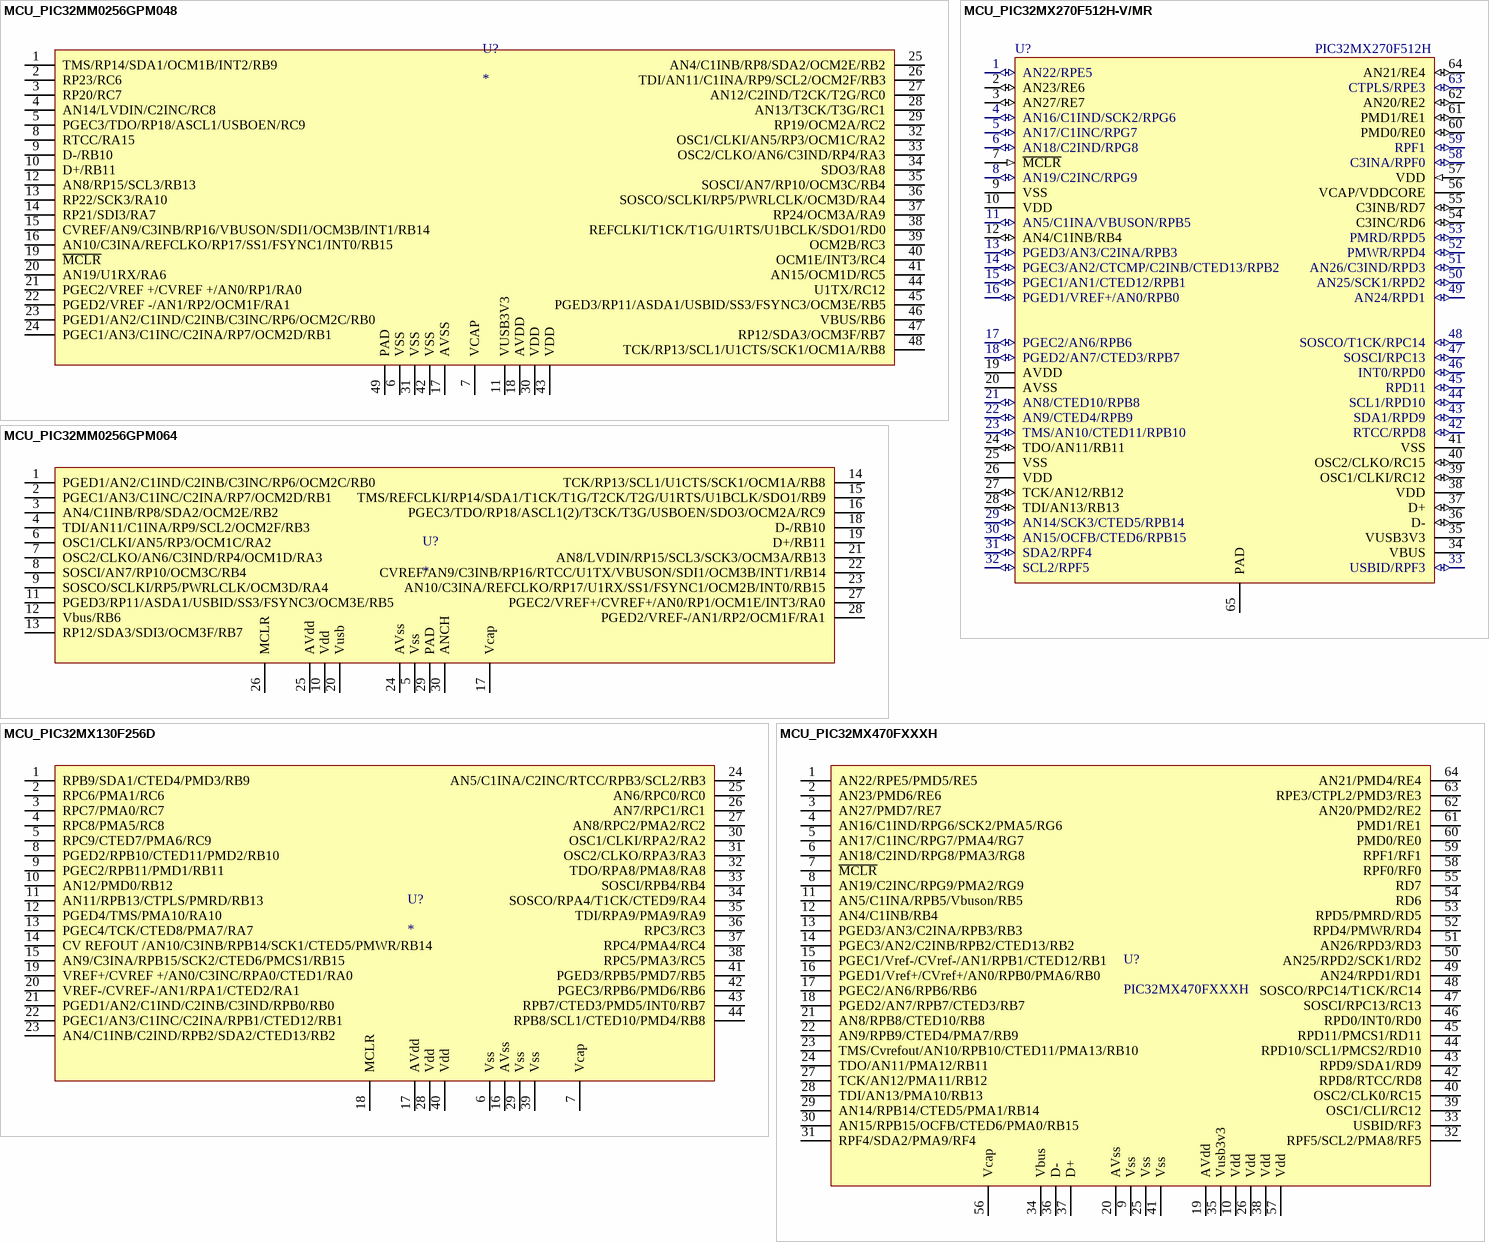
[diagram p4: symbols MCU_PIC32MM0256GPM048 to MCU_PIC32MX470FXXXH]

## MCU_PIC32MM0256GPM048
designator U?
footprint QFN40P600X600X90_HS-49N (QFN, 48-Leads, Body 6.00x6.00mm, Pitch 0.40mm, Thermal Pad 4.40x4.40mm, IPC Medium Density)
pins: 1 TMS/RP14/SDA1/OCM1B/INT2/RB9, 2 RP23/RC6 , 3 RP20/RC7, 4 AN14/LVDIN/C2INC/RC8 , 5 PGEC3/TDO/RP18/ASCL1/USBOEN/RC9, 6 VSS, 7 VCAP, 8 RTCC/RA15, 9 D-/RB10, 10 D+/RB11, 11 VUSB3V3, 12 AN8/RP15/SCL3/RB13, 13 RP22/SCK3/RA10, 14 RP21/SDI3/RA7, 15 CVREF/AN9/C3INB/RP16/VBUSON/SDI1/OCM3B/INT1/RB14, 16 AN10/C3INA/REFCLKO/RP17/SS1/FSYNC1/INT0/RB15, 17 AVSS, 18 AVDD, 19 ~{MCLR}, 20 AN19/U1RX/RA6, 21 PGEC2/VREF +/CVREF +/AN0/RP1/RA0 , 22 PGED2/VREF -/AN1/RP2/OCM1F/RA1, 23 PGED1/AN2/C1IND/C2INB/C3INC/RP6/OCM2C/RB0 , 24 PGEC1/AN3/C1INC/C2INA/RP7/OCM2D/RB1 , 25 AN4/C1INB/RP8/SDA2/OCM2E/RB2, 26 TDI/AN11/C1INA/RP9/SCL2/OCM2F/RB3, 27 AN12/C2IND/T2CK/T2G/RC0, 28 AN13/T3CK/T3G/RC1, 29 RP19/OCM2A/RC2, 30 VDD, 31 VSS, 32 OSC1/CLKI/AN5/RP3/OCM1C/RA2, 33 OSC2/CLKO/AN6/C3IND/RP4/RA3, 34 SDO3/RA8, 35 SOSCI/AN7/RP10/OCM3C/RB4, 36 SOSCO/SCLKI/RP5/PWRLCLK/OCM3D/RA4, 37 RP24/OCM3A/RA9, 38 REFCLKI/T1CK/T1G/U1RTS/U1BCLK/SDO1/RD0, 39 OCM2B/RC3, 40 OCM1E/INT3/RC4, 41 AN15/OCM1D/RC5, 42 VSS, 43 VDD, 44 U1TX/RC12, 45 PGED3/RP11/ASDA1/USBID/SS3/FSYNC3/OCM3E/RB5, 46 VBUS/RB6, 47 RP12/SDA3/OCM3F/RB7, 48 TCK/RP13/SCL1/U1CTS/SCK1/OCM1A/RB8, 49 PAD

## MCU_PIC32MM0256GPM064
designator U?
footprint QFN40P400X400X100_HS-29N (QFN, 28-Leads, Body 4.00x4.00mm, Pitch 0.40mm, Thermal Pad 1.00x3.50mm, IPC Medium Density)
pins: 1 PGED1/AN2/C1IND/C2INB/C3INC/RP6/OCM2C/RB0, 2 PGEC1/AN3/C1INC/C2INA/RP7/OCM2D/RB1 , 3 AN4/C1INB/RP8/SDA2/OCM2E/RB2, 4 TDI/AN11/C1INA/RP9/SCL2/OCM2F/RB3, 5 Vss, 6 OSC1/CLKI/AN5/RP3/OCM1C/RA2 , 7 OSC2/CLKO/AN6/C3IND/RP4/OCM1D/RA3, 8 SOSCI/AN7/RP10/OCM3C/RB4, 9 SOSCO/SCLKI/RP5/PWRLCLK/OCM3D/RA4, 10 Vdd, 11 PGED3/RP11/ASDA1/USBID/SS3/FSYNC3/OCM3E/RB5, 12 Vbus/RB6 , 13 RP12/SDA3/SDI3/OCM3F/RB7 , 14 TCK/RP13/SCL1/U1CTS/SCK1/OCM1A/RB8, 15 TMS/REFCLKI/RP14/SDA1/T1CK/T1G/T2CK/T2G/U1RTS/U1BCLK/SDO1/RB9, 16 PGEC3/TDO/RP18/ASCL1(2)/T3CK/T3G/USBOEN/SDO3/OCM2A/RC9, 17 Vcap, 18 D-/RB10, 19 D+/RB11, 20 Vusb, 21 AN8/LVDIN/RP15/SCL3/SCK3/OCM3A/RB13, 22 CVREF/AN9/C3INB/RP16/RTCC/U1TX/VBUSON/SDI1/OCM3B/INT1/RB14, 23 AN10/C3INA/REFCLKO/RP17/U1RX/SS1/FSYNC1/OCM2B/INT0/RB15, 24 AVss, 25 AVdd, 26 MCLR, 27 PGEC2/VREF+/CVREF+/AN0/RP1/OCM1E/INT3/RA0, 28 PGED2/VREF-/AN1/RP2/OCM1F/RA1, 29 PAD, 30 ANCH

## MCU_PIC32MX130F256D
designator U?
footprint TQFP80P1200X1200X120-44N (TQFP, 44-Leads, Body 10.00x10.00mm, Pitch 0.80mm, IPC Medium Density)
pins: 1 RPB9/SDA1/CTED4/PMD3/RB9 , 2 RPC6/PMA1/RC6, 3 RPC7/PMA0/RC7, 4 RPC8/PMA5/RC8, 5 RPC9/CTED7/PMA6/RC9 , 6 Vss, 7 Vcap, 8 PGED2/RPB10/CTED11/PMD2/RB10, 9 PGEC2/RPB11/PMD1/RB11 , 10 AN12/PMD0/RB12 , 11 AN11/RPB13/CTPLS/PMRD/RB13 , 12 PGED4/TMS/PMA10/RA10, 13 PGEC4/TCK/CTED8/PMA7/RA7, 14 CV REFOUT /AN10/C3INB/RPB14/SCK1/CTED5/PMWR/RB14 , 15 AN9/C3INA/RPB15/SCK2/CTED6/PMCS1/RB15 , 16 AVss, 17 AVdd, 18 MCLR , 19 VREF+/CVREF +/AN0/C3INC/RPA0/CTED1/RA0 , 20 VREF-/CVREF-/AN1/RPA1/CTED2/RA1 , 21 PGED1/AN2/C1IND/C2INB/C3IND/RPB0/RB0 , 22 PGEC1/AN3/C1INC/C2INA/RPB1/CTED12/RB1 , 23 AN4/C1INB/C2IND/RPB2/SDA2/CTED13/RB2, 24 AN5/C1INA/C2INC/RTCC/RPB3/SCL2/RB3, 25 AN6/RPC0/RC0, 26 AN7/RPC1/RC1, 27 AN8/RPC2/PMA2/RC2, 28 Vdd, 29 Vss, 30 OSC1/CLKI/RPA2/RA2, 31 OSC2/CLKO/RPA3/RA3, 32 TDO/RPA8/PMA8/RA8, 33 SOSCI/RPB4/RB4, 34 SOSCO/RPA4/T1CK/CTED9/RA4, 35 TDI/RPA9/PMA9/RA9, 36 RPC3/RC3, 37 RPC4/PMA4/RC4, 38 RPC5/PMA3/RC5, 39 Vss, 40 Vdd, 41 PGED3/RPB5/PMD7/RB5, 42 PGEC3/RPB6/PMD6/RB6, 43 RPB7/CTED3/PMD5/INT0/RB7, 44 RPB8/SCL1/CTED10/PMD4/RB8

## MCU_PIC32MX270F512H-V/MR
designator U?, comment value PIC32MX270F512H  (hidden comment: PIC32MX270F512H-V/MR)
32-bit PIC Microcontroller, 64-pin QFN, 105C; Supplier 1: Mouser; Supplier Part Number 1: 579-32MX270F512HV/MR
footprint QFN50P900X900X90_HS-65N (QFN, 64-Leads, Body 9.00x9.00mm, Pitch 0.50mm, Thermal Pad 5.40x5.40mm, IPC Medium Density)
pins: 1 AN22/RPE5 (io), 2 AN23/RE6 (io), 3 AN27/RE7 (io), 4 AN16/C1IND/SCK2/RPG6 (io), 5 AN17/C1INC/RPG7 (io), 6 AN18/C2IND/RPG8 (io), 7 ~{MCLR} (in), 8 AN19/C2INC/RPG9 (io), 9 VSS (power), 10 VDD (power), 11 AN5/C1INA/VBUSON/RPB5 (io), 12 AN4/C1INB/RB4 (io), 13 PGED3/AN3/C2INA/RPB3 (io), 14 PGEC3/AN2/CTCMP/C2INB/CTED13/RPB2 (io), 15 PGEC1/AN1/CTED12/RPB1 (io), 16 PGED1/VREF+/AN0/RPB0 (io), 17 PGEC2/AN6/RPB6 (io), 18 PGED2/AN7/CTED3/RPB7 (io), 19 AVDD (power), 20 AVSS (power), 21 AN8/CTED10/RPB8 (io), 22 AN9/CTED4/RPB9 (io), 23 TMS/AN10/CTED11/RPB10 (io), 24 TDO/AN11/RB11 (io), 25 VSS (power), 26 VDD (power), 27 TCK/AN12/RB12 (io), 28 TDI/AN13/RB13 (io), 29 AN14/SCK3/CTED5/RPB14 (io), 30 AN15/OCFB/CTED6/RPB15 (io), 31 SDA2/RPF4 (io), 32 SCL2/RPF5 (io), 33 USBID/RPF3 (io), 34 VBUS, 35 VUSB3V3 (power), 36 D- (io), 37 D+ (io), 38 VDD (power), 39 OSC1/CLKI/RC12 (io), 40 OSC2/CLKO/RC15 (io), 41 VSS (power), 42 RTCC/RPD8 (io), 43 SDA1/RPD9 (io), 44 SCL1/RPD10 (io), 45 RPD11 (io), 46 INT0/RPD0 (io), 47 SOSCI/RPC13 (io), 48 SOSCO/T1CK/RPC14 (io), 49 AN24/RPD1 (io), 50 AN25/SCK1/RPD2 (io), 51 AN26/C3IND/RPD3 (io), 52 PMWR/RPD4 (io), 53 PMRD/RPD5 (io), 54 C3INC/RD6 (io), 55 C3INB/RD7 (io), 56 VCAP/VDDCORE (power), 57 VDD (in), 58 C3INA/RPF0 (io), 59 RPF1 (io), 60 PMD0/RE0 (io), 61 PMD1/RE1 (io), 62 AN20/RE2 (io), 63 CTPLS/RPE3 (io), 64 AN21/RE4 (io), 65 PAD
1 alternate drawing of the same symbol

## MCU_PIC32MX470FXXXH
designator U?, comment PIC32MX470FXXXH
footprint TSQFP50P1200X1200X120-64M (TSQFP, 64-Leads, Body 10.00x10.00mm, Pitch 0.50mm, IPC Low Density)
pins: 1 AN22/RPE5/PMD5/RE5, 2 AN23/PMD6/RE6, 3 AN27/PMD7/RE7, 4 AN16/C1IND/RPG6/SCK2/PMA5/RG6, 5 AN17/C1INC/RPG7/PMA4/RG7, 6 AN18/C2IND/RPG8/PMA3/RG8, 7 ~{MCLR}, 8 AN19/C2INC/RPG9/PMA2/RG9, 9 Vss, 10 Vdd, 11 AN5/C1INA/RPB5/Vbuson/RB5, 12 AN4/C1INB/RB4, 13 PGED3/AN3/C2INA/RPB3/RB3, 14 PGEC3/AN2/C2INB/RPB2/CTED13/RB2, 15 PGEC1/Vref-/CVref-/AN1/RPB1/CTED12/RB1, 16 PGED1/Vref+/CVref+/AN0/RPB0/PMA6/RB0, 17 PGEC2/AN6/RPB6/RB6, 18 PGED2/AN7/RPB7/CTED3/RB7, 19 AVdd, 20 AVss, 21 AN8/RPB8/CTED10/RB8, 22 AN9/RPB9/CTED4/PMA7/RB9, 23 TMS/Cvrefout/AN10/RPB10/CTED11/PMA13/RB10, 24 TDO/AN11/PMA12/RB11, 25 Vss, 26 Vdd, 27 TCK/AN12/PMA11/RB12, 28 TDI/AN13/PMA10/RB13, 29 AN14/RPB14/CTED5/PMA1/RB14, 30 AN15/RPB15/OCFB/CTED6/PMA0/RB15, 31 RPF4/SDA2/PMA9/RF4, 32 RPF5/SCL2/PMA8/RF5, 33 USBID/RF3, 34 Vbus, 35 Vusb3v3, 36 D-, 37 D+, 38 Vdd, 39 OSC1/CLI/RC12, 40 OSC2/CLK0/RC15, 41 Vss, 42 RPD8/RTCC/RD8, 43 RPD9/SDA1/RD9, 44 RPD10/SCL1/PMCS2/RD10, 45 RPD11/PMCS1/RD11, 46 RPD0/INT0/RD0, 47 SOSCI/RPC13/RC13, 48 SOSCO/RPC14/T1CK/RC14, 49 AN24/RPD1/RD1, 50 AN25/RPD2/SCK1/RD2, 51 AN26/RPD3/RD3, 52 RPD4/PMWR/RD4, 53 RPD5/PMRD/RD5, 54 RD6, 55 RD7, 56 Vcap, 57 Vdd, 58 RPF0/RF0, 59 RPF1/RF1, 60 PMD0/RE0, 61 PMD1/RE1, 62 AN20/PMD2/RE2, 63 RPE3/CTPL2/PMD3/RE3, 64 AN21/PMD4/RE4

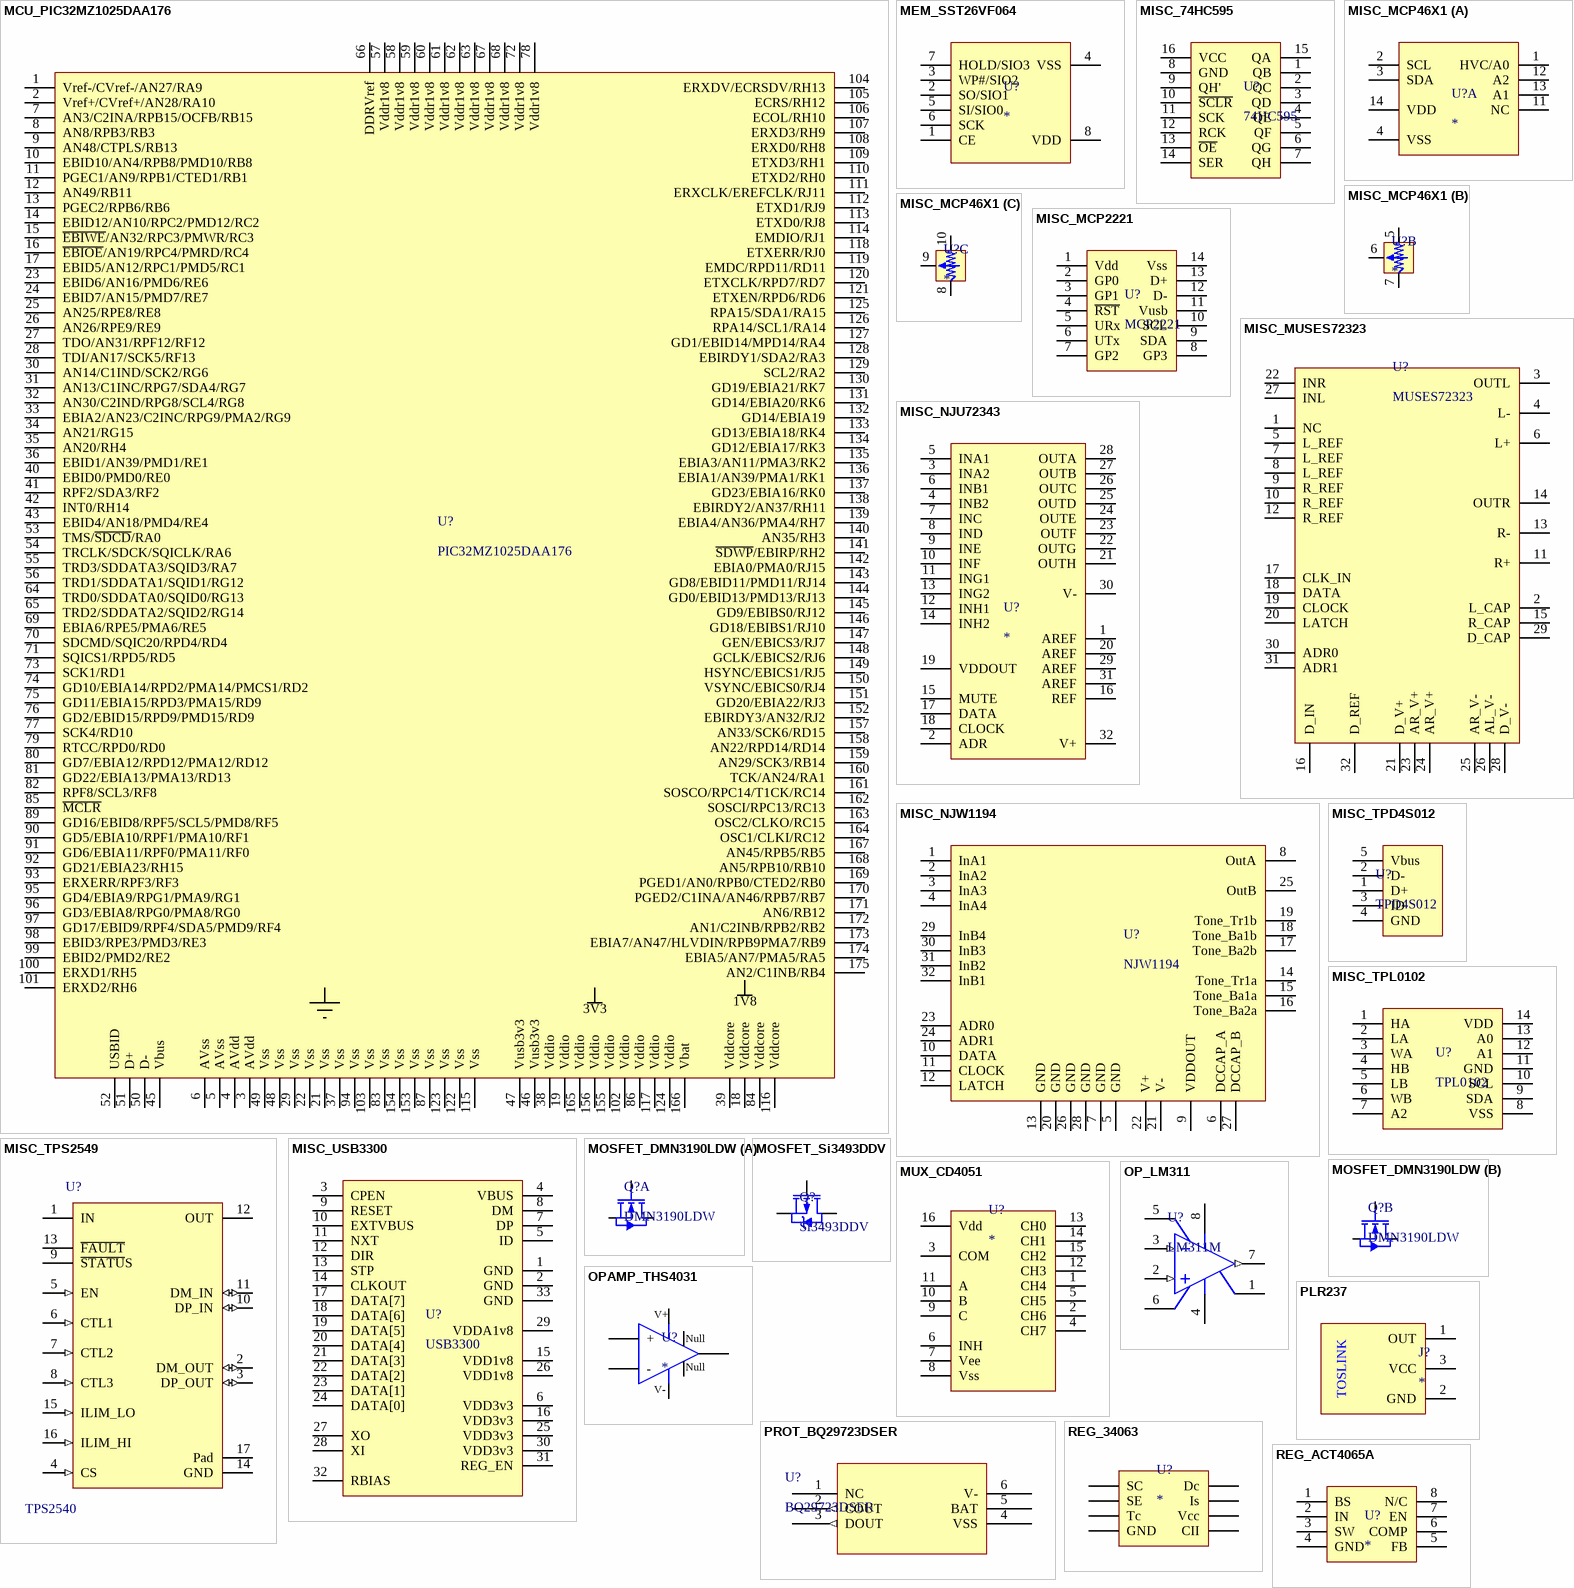
[diagram p5: symbols MCU_PIC32MZ1025DAA176 to REG_ACT4065A]

## MCU_PIC32MZ1025DAA176
designator U?, comment PIC32MZ1025DAA176
footprint QFP176-0_4
pins: 1 Vref-/CVref-/AN27/RA9, 2 Vref+/CVref+/AN28/RA10, 3 AVdd, 4 AVdd, 5 AVss, 6 AVss, 7 AN3/C2INA/RPB15/OCFB/RB15, 8 AN8/RPB3/RB3, 9 AN48/CTPLS/RB13, 10 EBID10/AN4/RPB8/PMD10/RB8, 11 PGEC1/AN9/RPB1/CTED1/RB1, 12 AN49/RB11, 13 PGEC2/RPB6/RB6, 14 EBID12/AN10/RPC2/PMD12/RC2, 15 ~{EBIWE}/AN32/RPC3/PMWR/RC3, 16 ~{EBIOE}/AN19/RPC4/PMRD/RC4, 17 EBID5/AN12/RPC1/PMD5/RC1, 18 Vddcore, 19 Vddio, 21 Vss, 22 Vss, 23 EBID6/AN16/PMD6/RE6, 24 EBID7/AN15/PMD7/RE7, 25 AN25/RPE8/RE8, 26 AN26/RPE9/RE9, 27 TDO/AN31/RPF12/RF12, 28 TDI/AN17/SCK5/RF13, 29 Vss, 30 AN14/C1IND/SCK2/RG6, 31 AN13/C1INC/RPG7/SDA4/RG7, 32 AN30/C2IND/RPG8/SCL4/RG8, 33 EBIA2/AN23/C2INC/RPG9/PMA2/RG9, 34 AN21/RG15, 35 AN20/RH4, 36 EBID1/AN39/PMD1/RE1, 37 Vss, 38 Vddio, 39 Vddcore, 40 EBID0/PMD0/RE0, 41 RPF2/SDA3/RF2, 42 INT0/RH14, 43 EBID4/AN18/PMD4/RE4, 45 Vbus, 46 Vusb3v3, 47 Vusb3v3, 48 Vss, 49 Vss, 50 D-, 51 D+, 52 USBID, 53 TMS/~{SDCD}/RA0, 54 TRCLK/SDCK/SQICLK/RA6, 55 TRD3/SDDATA3/SQID3/RA7, 56 TRD1/SDDATA1/SQID1/RG12, 57 Vddr1v8, 58 Vddr1v8, 59 Vddr1v8, 60 Vddr1v8, 61 Vddr1v8, 62 Vddr1v8, 63 Vddr1v8, 64 TRD0/SDDATA0/SQID0/RG13, 65 TRD2/SDDATA2/SQID2/RG14, 66 DDRVref, 67 Vddr1v8, 68 Vddr1v8, 69 EBIA6/RPE5/PMA6/RE5, 70 SDCMD/SQIC20/RPD4/RD4, 71 SQICS1/RPD5/RD5, 72 Vddr1v8, 73 SCK1/RD1, 74 GD10/EBIA14/RPD2/PMA14/PMCS1/RD2, 75 GD11/EBIA15/RPD3/PMA15/RD9, 76 GD2/EBID15/RPD9/PMD15/RD9, 77 SCK4/RD10, 78 Vddr1v8, 79 RTCC/RPD0/RD0, 80 GD7/EBIA12/RPD12/PMA12/RD12, 81 GD22/EBIA13/PMA13/RD13, 82 RPF8/SCL3/RF8, 83 Vss, 84 Vddcore, 85 ~{MCLR}, 86 Vddio, 87 Vss, 89 GD16/EBID8/RPF5/SCL5/PMD8/RF5, 90 GD5/EBIA10/RPF1/PMA10/RF1, 91 GD6/EBIA11/RPF0/PMA11/RF0, 92 GD21/EBIA23/RH15, 93 ERXERR/RPF3/RF3, 94 Vss, 95 GD4/EBIA9/RPG1/PMA9/RG1, 96 GD3/EBIA8/RPG0/PMA8/RG0, 97 GD17/EBID9/RPF4/SDA5/PMD9/RF4, 98 EBID3/RPE3/PMD3/RE3, 99 EBID2/PMD2/RE2, 100 ERXD1/RH5, 101 ERXD2/RH6, 102 Vddio, 103 Vss, 104 ERXDV/ECRSDV/RH13, 105 ECRS/RH12, 106 ECOL/RH10, 107 ERXD3/RH9, 108 ERXD0/RH8, 109 ETXD3/RH1, 110 ETXD2/RH0, 111 ERXCLK/EREFCLK/RJ11, 112 ETXD1/RJ9, 113 ETXD0/RJ8, 114 EMDIO/RJ1, 115 Vss, 116 Vddcore, 117 Vddio, 118 ETXERR/RJ0, 119 EMDC/RPD11/RD11, 120 ETXCLK/RPD7/RD7, 121 ETXEN/RPD6/RD6, 122 Vss, 123 Vss, 124 Vddio, 125 RPA15/SDA1/RA15, 126 RPA14/SCL1/RA14, 127 GD1/EBID14/MPD14/RA4, 128 EBIRDY1/SDA2/RA3, 129 SCL2/RA2, 130 GD19/EBIA21/RK7, 131 GD14/EBIA20/RK6, 132 GD14/EBIA19, 133 GD13/EBIA18/RK4, 134 GD12/EBIA17/RK3, 135 EBIA3/AN11/PMA3/RK2, 136 EBIA1/AN39/PMA1/RK1, 137 GD23/EBIA16/RK0, 138 EBIRDY2/AN37/RH11, 139 EBIA4/AN36/PMA4/RH7, 140 AN35/RH3, 141 ~{SDWP}/EBIRP/RH2, 142 EBIA0/PMA0/RJ15, 143 GD8/EBID11/PMD11/RJ14, 144 GD0/EBID13/PMD13/RJ13, 145 GD9/EBIBS0/RJ12, 146 GD18/EBIBS1/RJ10, 147 GEN/EBICS3/RJ7, 148 GCLK/EBICS2/RJ6, 149 HSYNC/EBICS1/RJ5, 150 VSYNC/EBICS0/RJ4, 151 GD20/EBIA22/RJ3, 152 EBIRDY3/AN32/RJ2, 153 Vss, 154 Vss, 155 Vddio, 156 Vddio, 157 AN33/SCK6/RD15, 158 AN22/RPD14/RD14, 159 AN29/SCK3/RB14, 160 TCK/AN24/RA1, 161 SOSCO/RPC14/T1CK/RC14, 162 SOSCI/RPC13/RC13, 163 OSC2/CLKO/RC15, 164 OSC1/CLKI/RC12, 165 Vddio, 166 Vbat, 167 AN45/RPB5/RB5, 168 AN5/RPB10/RB10, 169 PGED1/AN0/RPB0/CTED2/RB0, 170 PGED2/C1INA/AN46/RPB7/RB7, 171 AN6/RB12, 172 AN1/C2INB/RPB2/RB2, 173 EBIA7/AN47/HLVDIN/RPB9PMA7/RB9, 174 EBIA5/AN7/PMA5/RA5, 175 AN2/C1INB/RB4
text: 1V8; 3V3

## MEM_SST26VF064
designator U?
footprint SOIC8_wide (SOIC, 8-Leads, Body 5.26x5.25mm, Pitch 1.27mm, IPC Medium Density)
pins: 1 CE, 2 SO/SIO1, 3 WP#/SIO2, 4 VSS, 5 SI/SIO0, 6 SCK, 7 HOLD/SIO3, 8 VDD

## MISC_74HC595
designator U?, comment 74HC595
footprint SOIC127P600X175-16N (SOIC, 16-Leads, Body 9.90x3.90mm, Pitch 1.27mm, IPC Medium Density)
footprint SOP64P600X175-16N (SSOP, 16-Leads, Body 4.91x3.90mm, Pitch 0.64mm, IPC Medium Density)
pins: 1 QB, 2 QC, 3 QD, 4 QE, 5 QF, 6 QG, 7 QH, 8 GND, 9 QH', 10 ~{SCLR}, 11 SCK, 12 RCK, 13 ~{OE}, 14 SER, 15 QA, 16 VCC

## MISC_MCP46X1
designator U?
footprint SOP65P640X120-14N (TSOP, 14-Leads, Body 5.00x4.40mm, Pitch 0.65mm, IPC Medium Density)
part A pins: 1 HVC/A0, 2 SCL, 3 SDA, 4 VSS, 11 NC, 12 A2, 13 A1, 14 VDD
part B pins: 5 1B, 6 1W, 7 1A
part C pins: 8 0A, 9 0W, 10 0B

## MISC_MCP2221
designator U?, comment MCP2221
footprint SOIC14
pins: 1 Vdd, 2 GP0, 3 GP1, 4 ~{RST}, 5 URx, 6 UTx, 7 GP2, 8 GP3, 9 SDA, 10 SCL, 11 Vusb, 12 D-, 13 D+, 14 Vss

## MISC_MUSES72323
designator U?, comment MUSES72323
ComponentLink1Description: New link; ComponentLink1URL: https://mou.sr/44CKaS1
footprint SOP65P800X265-32N (SOP, 32-Leads, Body 10.30x6.00mm, Pitch 0.65mm, IPC Medium Density)
pins: 1 NC, 2 L_CAP, 3 OUTL, 4 L-, 5 L_REF, 6 L+, 7 L_REF, 8 L_REF, 9 R_REF, 10 R_REF, 11 R+, 12 R_REF, 13 R-, 14 OUTR, 15 R_CAP, 16 D_IN, 17 CLK_IN, 18 DATA, 19 CLOCK, 20 LATCH, 21 D_V+, 22 INR, 23 AR_V+, 24 AR_V+, 25 AR_V-, 26 AL_V-, 27 INL, 28 D_V-, 29 D_CAP, 30 ADR0, 31 ADR1, 32 D_REF

## MISC_NJU72343
designator U?
footprint SOP65P800X265-32N (SOP, 32-Leads, Body 10.30x6.00mm, Pitch 0.65mm, IPC Medium Density)
pins: 1 AREF, 2 ADR, 3 INA2, 4 INB2, 5 INA1, 6 INB1, 7 INC, 8 IND, 9 INE, 10 INF, 11 ING1, 12 INH1, 13 ING2, 14 INH2, 15 MUTE, 16 REF, 17 DATA, 18 CLOCK, 19 VDDOUT, 20 AREF, 21 OUTH, 22 OUTG, 23 OUTF, 24 OUTE, 25 OUTD, 26 OUTC, 27 OUTB, 28 OUTA, 29 AREF, 30 V-, 31 AREF, 32 V+

## MISC_NJW1194
designator U?, comment NJW1194
footprint SOP65P800X265-32N (SOP, 32-Leads, Body 10.30x6.00mm, Pitch 0.65mm, IPC Medium Density)
pins: 1 InA1, 2 InA2, 3 InA3, 4 InA4, 5 GND, 6 DCCAP_A, 7 GND, 8 OutA, 9 VDDOUT, 10 DATA, 11 CLOCK, 12 LATCH, 13 GND, 14 Tone_Tr1a, 15 Tone_Ba1a, 16 Tone_Ba2a, 17 Tone_Ba2b, 18 Tone_Ba1b, 19 Tone_Tr1b, 20 GND, 21 V-, 22 V+, 23 ADR0, 24 ADR1, 25 OutB, 26 GND, 27 DCCAP_B, 28 GND, 29 InB4, 30 InB3, 31 InB2, 32 InB1

## MISC_TPD4S012
designator U?, comment TPD4S012
pins: 1 D+, 2 D-, 3 ID, 4 GND, 5 Vbus

## MISC_TPL0102
designator U?, comment TPL0102
Digital Potentiometers
footprint SOP65P640X120-14N (TSOP, 14-Leads, Body 5.00x4.40mm, Pitch 0.65mm, IPC Medium Density)
pins: 1 HA, 2 LA, 3 WA, 4 HB, 5 LB, 6 WB, 7 A2, 8 VSS, 9 SDA, 10 SCL, 11 GND, 12 A1, 13 A0, 14 VDD

## MISC_TPS2549
designator U?, comment value TPS2540  (hidden comment: TPS2549)
USB Charging Controller with Switch; Supplier 1: Mouser; Supplier Part Number 1: 595-TPS2540RTER
footprint QFN50P300X300X80_HS-17N (QFN, 16-Leads, Body 3.00x3.00mm, Pitch 0.50mm, Thermal Pad 1.70x1.70mm, IPC Medium Density)
pins: 1 IN (power), 2 DM_OUT (io), 3 DP_OUT (io), 4 CS (in) "Changes current limit between ILIM0 and ILIM1", 5 EN (in), 6 CTL1 (in), 7 CTL2 (in), 8 CTL3 (in), 9 ~{STATU}S, 10 DP_IN (io), 11 DM_IN (io), 12 OUT (power), 13 ~{FAULT} (oc), 14 GND (power), 15 ILIM_LO (in), 16 ILIM_HI (in), 17 Pad (power)

## MISC_USB3300
designator U?, comment USB3300
pins: 1 GND, 2 GND, 3 CPEN, 4 VBUS, 5 ID, 6 VDD3v3, 7 DP, 8 DM, 9 RESET, 10 EXTVBUS, 11 NXT, 12 DIR, 13 STP, 14 CLKOUT, 15 VDD1v8, 16 VDD3v3, 17 DATA[7], 18 DATA[6], 19 DATA[5], 20 DATA[4], 21 DATA[3], 22 DATA[2], 23 DATA[1], 24 DATA[0], 25 VDD3v3, 26 VDD1v8, 27 XO, 28 XI, 29 VDDA1v8, 30 VDD3v3, 31 REG_EN, 32 RBIAS, 33 GND

## MOSFET_DMN3190LDW
designator Q?, comment DMN3190LDW
footprint SOT65P210X110-6N (SOT23, 6-Leads, Body 1.98x2.10mm, Pitch 0.65mm, IPC Medium Density)
part A pins: 3 D, 4 S, 5 G
part B pins: 1 S, 2 G, 6 D

## MOSFET_Si3493DDV
designator Q?, comment Si3493DDV
P-Channel MOS
footprint SOT23-6 (SOT23, 6-Leads, Body 2.90x2.80mm, Pitch 0.95mm, IPC Medium Density)
pins: 1 D, 2 D, 3 G, 4 S, 5 D, 6 D

## MUX_CD4051
designator U?
footprint TSOP65P640X120-16N (TSOP, 16-Leads, Body 5.00x4.40mm, Pitch 0.65mm, IPC Medium Density)
pins: 1 CH4, 2 CH6, 3 COM, 4 CH7, 5 CH5, 6 INH, 7 Vee, 8 Vss, 9 C, 10 B, 11 A, 12 CH3, 13 CH0, 14 CH1, 15 CH2, 16 Vdd

## OP_LM311
designator U?, comment LM311M
Voltage Comparator, 8-pin Narrow SOIC; Manufacturer: Texas Instruments; PowerWise: N; PackageTopMarking: NSZXTT*LM*311M; CompType: Amplifiers; ComponentLink1Description: Datasheet URL; Code_JEDEC: MS-012-AA; ComponentLink1URL: http://www.ti.com/general/docs/lit/getliterature.tsp?genericPartNumber=LM311-N&fileType=pdf; RoHS: N; PackageDescription: SOIC Narrow, 4.9 x 3.9 x 1.45mm, 8 Lead, 1.27mm Pitch; PinCount: 8; Code_IPC: SOIC127P600-8; Package Reference: D0008A
footprint SOIC127P600X175-8N (SOIC, 8-Leads, Body 4.95x3.90mm, Pitch 1.27mm, IPC Medium Density)
pins: 1 GND (power), 2 IN+ (in), 3 IN- (in), 4 V- (power), 5 BAL, 6 BAL/STB, 7 OUT (out), 8 V+ (power)

## OPAMP_THS4031
designator U?
pins: 1, 2 -, 3 +, 4, 6, 7, 8
text: V+; Null; V-

## PLR237
designator J?
footprint PLR237/T8BK
pins: 1 OUT, 2 GND, 3 VCC
text: TOSLINK

## PROT_BQ29723DSER
designator U?, comment BQ29723DSER
No Description Available; Mfr_Name: Texas Instruments; Copyright: Copyright (C) 2022 Ultra Librarian. All rights reserved.; Manufacturer_Part_Number: BQ29723DSER; RefDes: RefDes; Type: DEV
footprint WSON-6
pins: 1 NC, 2 COUT (out), 3 DOUT (out), 4 VSS (power), 5 BAT, 6 V- (power)

## REG_34063
designator U?
footprint SOIC127P600X175-8N (SOIC, 8-Leads, Body 4.95x3.90mm, Pitch 1.27mm, IPC Medium Density)
pins: 1 SC, 2 SE, 3 Tc, 4 GND, 5 CII, 6 Vcc, 7 Is, 8 Dc

## REG_ACT4065A
designator U?
footprint SOIC127P600X175-8N (SOIC, 8-Leads, Body 4.95x3.90mm, Pitch 1.27mm, IPC Medium Density)
pins: 1 BS, 2 IN, 3 SW, 4 GND, 5 FB, 6 COMP, 7 EN, 8 N/C

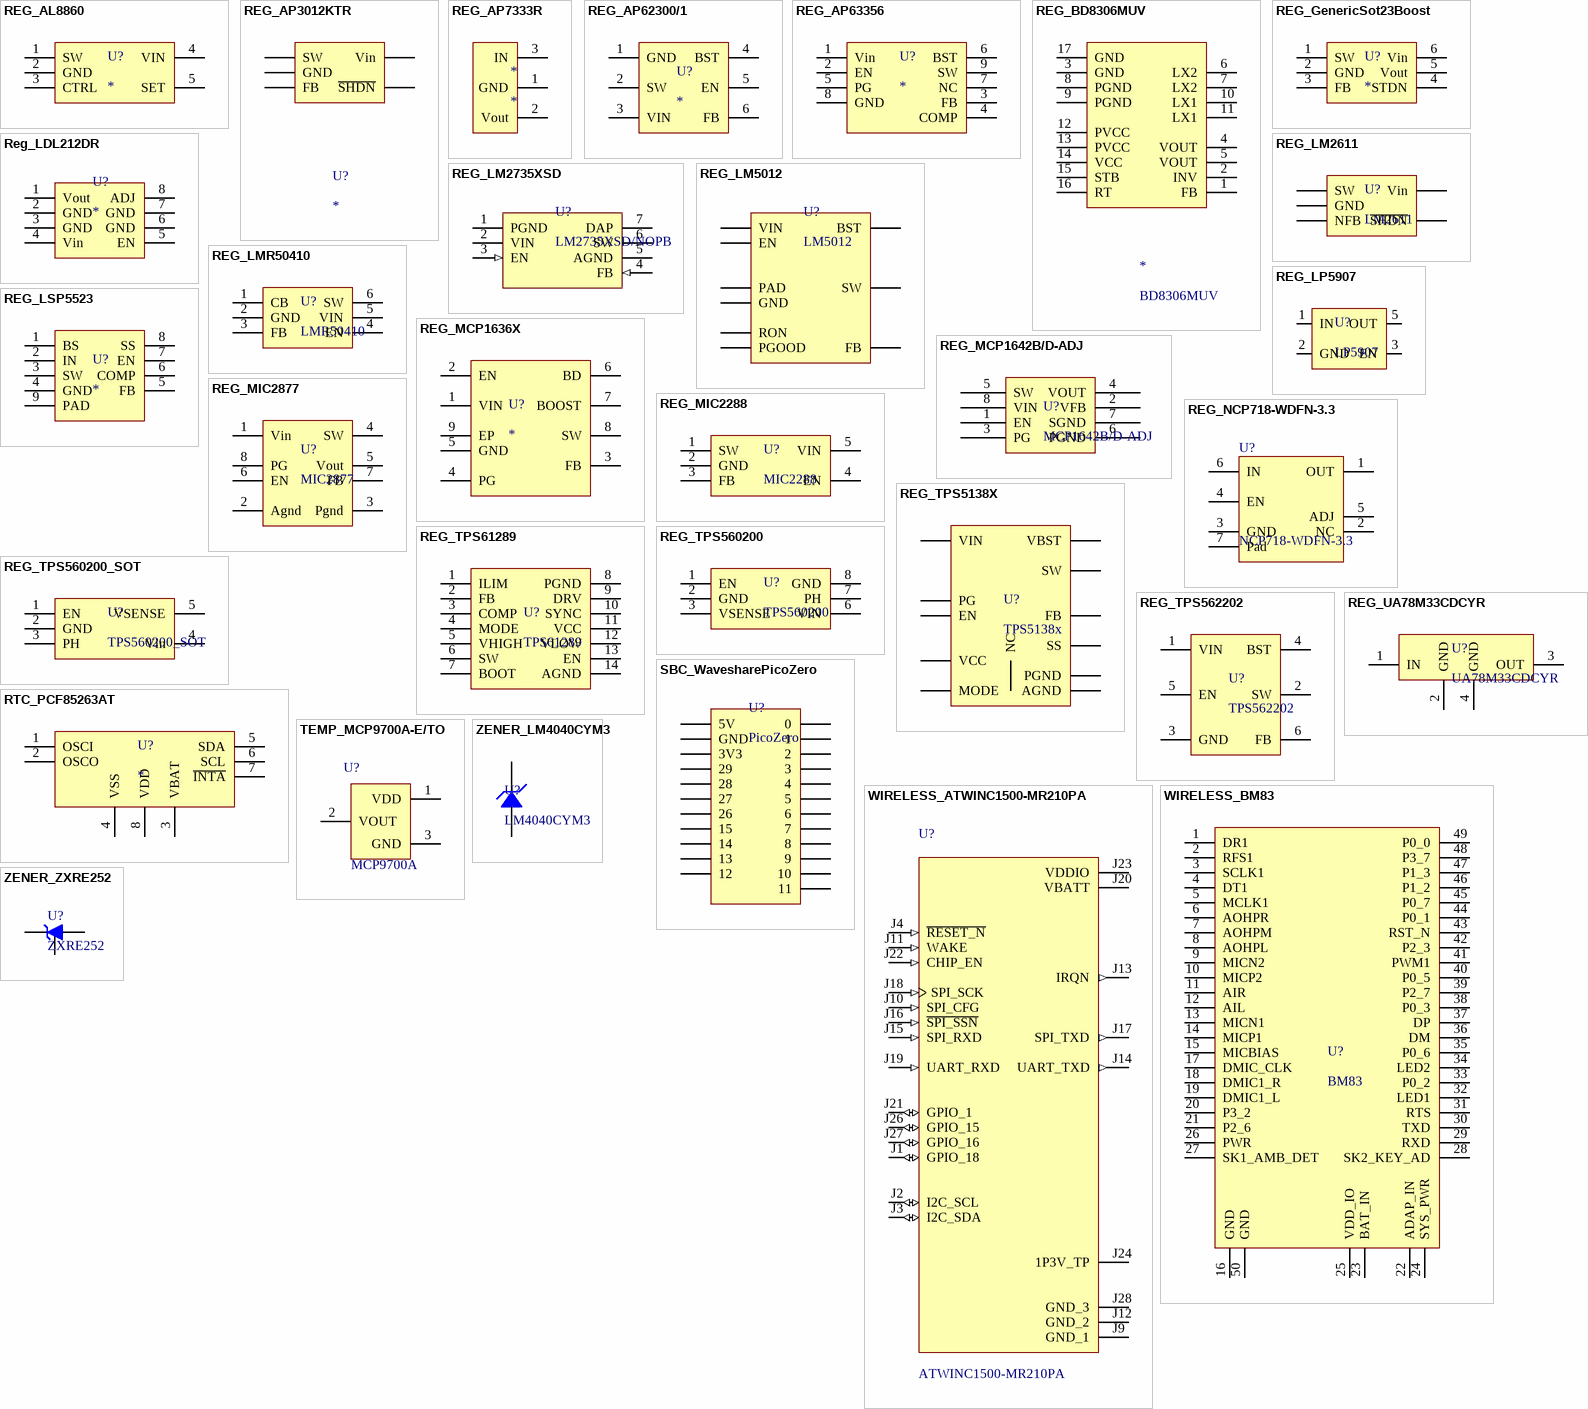
[diagram p6: symbols REG_AL8860 to ZENER_ZXRE252]

## REG_AL8860
designator U?
LED Driver 40V 1-1.5A
footprint SOT23-5 (SOT23, 5-Leads, Body 2.90x2.80mm, Pitch 0.95mm, IPC Medium Density)
pins: 1 SW, 2 GND, 3 CTRL, 4 VIN, 5 SET

## REG_AP3012KTR
designator U?
footprint SOT23-5 (SOT23, 5-Leads, Body 2.90x2.80mm, Pitch 0.95mm, IPC Medium Density)
pins: 1 SW, 2 GND, 3 FB, 4 ~{SHDN}, 5 Vin

## REG_AP7333R
designator *
footprint SOT95P245X110-3N (SOT23, 3-Leads, Body 2.90x2.45mm, Pitch 0.95mm, IPC Medium Density)
pins: 1 GND, 2 Vout, 3 IN

## REG_AP62300/1
designator U?
footprint SOT23-6 (SOT23, 6-Leads, Body 2.90x2.80mm, Pitch 0.95mm, IPC Medium Density)
pins: 1 GND, 2 SW, 3 VIN, 4 BST, 5 EN, 6 FB

## REG_AP63356
designator U?
footprint V-DFN3020-13
pins: 1 Vin, 2 EN, 3 FB, 4 COMP, 5 PG, 6 BST, 7 NC, 8 GND, 9 SW

## REG_BD8306MUV
designator *, comment BD8306MUV
footprint QFN50P300X300X100_HS-17N (QFN, 16-Leads, Body 3.00x3.00mm, Pitch 0.50mm, Thermal Pad 1.40x1.40mm, IPC Medium Density)
pins: 1 FB, 2 INV, 3 GND, 4 VOUT, 5 VOUT, 6 LX2, 7 LX2, 8 PGND, 9 PGND, 10 LX1, 11 LX1, 12 PVCC, 13 PVCC, 14 VCC, 15 STB, 16 RT, 17 GND

## REG_GenericSot23Boost
designator U?
footprint SOT23-6 (SOT23, 6-Leads, Body 2.90x2.80mm, Pitch 0.95mm, IPC Medium Density)
pins: 1 SW, 2 GND, 3 FB, 4 STDN, 5 Vout, 6 Vin

## Reg_LDL212DR
designator U?
footprint SOIC127P600X175-8N (SOIC, 8-Leads, Body 4.95x3.90mm, Pitch 1.27mm, IPC Medium Density)
pins: 1 Vout, 2 GND, 3 GND, 4 Vin, 5 EN, 6 GND, 7 GND, 8 ADJ

## REG_LM2611
designator U?, comment LM2611
footprint SOT23-5 (SOT23, 5-Leads, Body 2.90x2.80mm, Pitch 0.95mm, IPC Medium Density)
pins: 1 SW, 2 GND, 3 NFB, 4 ~{SHDN}, 5 Vin

## REG_LM2735XSD
designator U?, comment LM2735XSD/NOPB
No Description Available; Mfr_Name: Texas Instruments; Copyright: Copyright (C) 2022 Ultra Librarian. All rights reserved.; Manufacturer_Part_Number: LM2735XSD/NOPB; RefDes: RefDes; Type: DEV
footprint WSON(NGG)
pins: 1 PGND (power), 2 VIN (power), 3 EN (in), 4 FB (in), 5 AGND (power), 6 SW (power), 7 DAP (power)

## REG_LM5012
designator U?, comment LM5012
footprint SOIC127P600X175-8N-Pad (SOIC, 8-Leads, Body 4.95x3.90mm, Pitch 1.27mm, IPC Medium Density)
pins: 1 GND, 2 VIN, 3 EN, 4 RON, 5 FB, 6 PGOOD, 7 BST, 8 SW, 9 PAD

## REG_LMR50410
designator U?, comment LMR50410
footprint SOT23-6 (SOT23, 6-Leads, Body 2.90x2.80mm, Pitch 0.95mm, IPC Medium Density)
pins: 1 CB, 2 GND, 3 FB, 4 EN, 5 VIN, 6 SW

## REG_LP5907
designator U?, comment LP5907
Value: *
footprint SOT23-5 (SOT23, 5-Leads, Body 2.90x2.80mm, Pitch 0.95mm, IPC Medium Density)
pins: 1 IN, 2 GND, 3 EN, 5 OUT

## REG_LSP5523
designator U?
footprint SOIC127P600X175-8N-Pad (SOIC, 8-Leads, Body 4.95x3.90mm, Pitch 1.27mm, IPC Medium Density)
pins: 1 BS, 2 IN, 3 SW, 4 GND, 5 FB, 6 COMP, 7 EN, 8 SS, 9 PAD